# Altium integrated library Altera ACEX 1K.IntLib: 67 symbols (part 1 of 7)
Pins are listed as number, name and electrical type; pins without a type are passive.

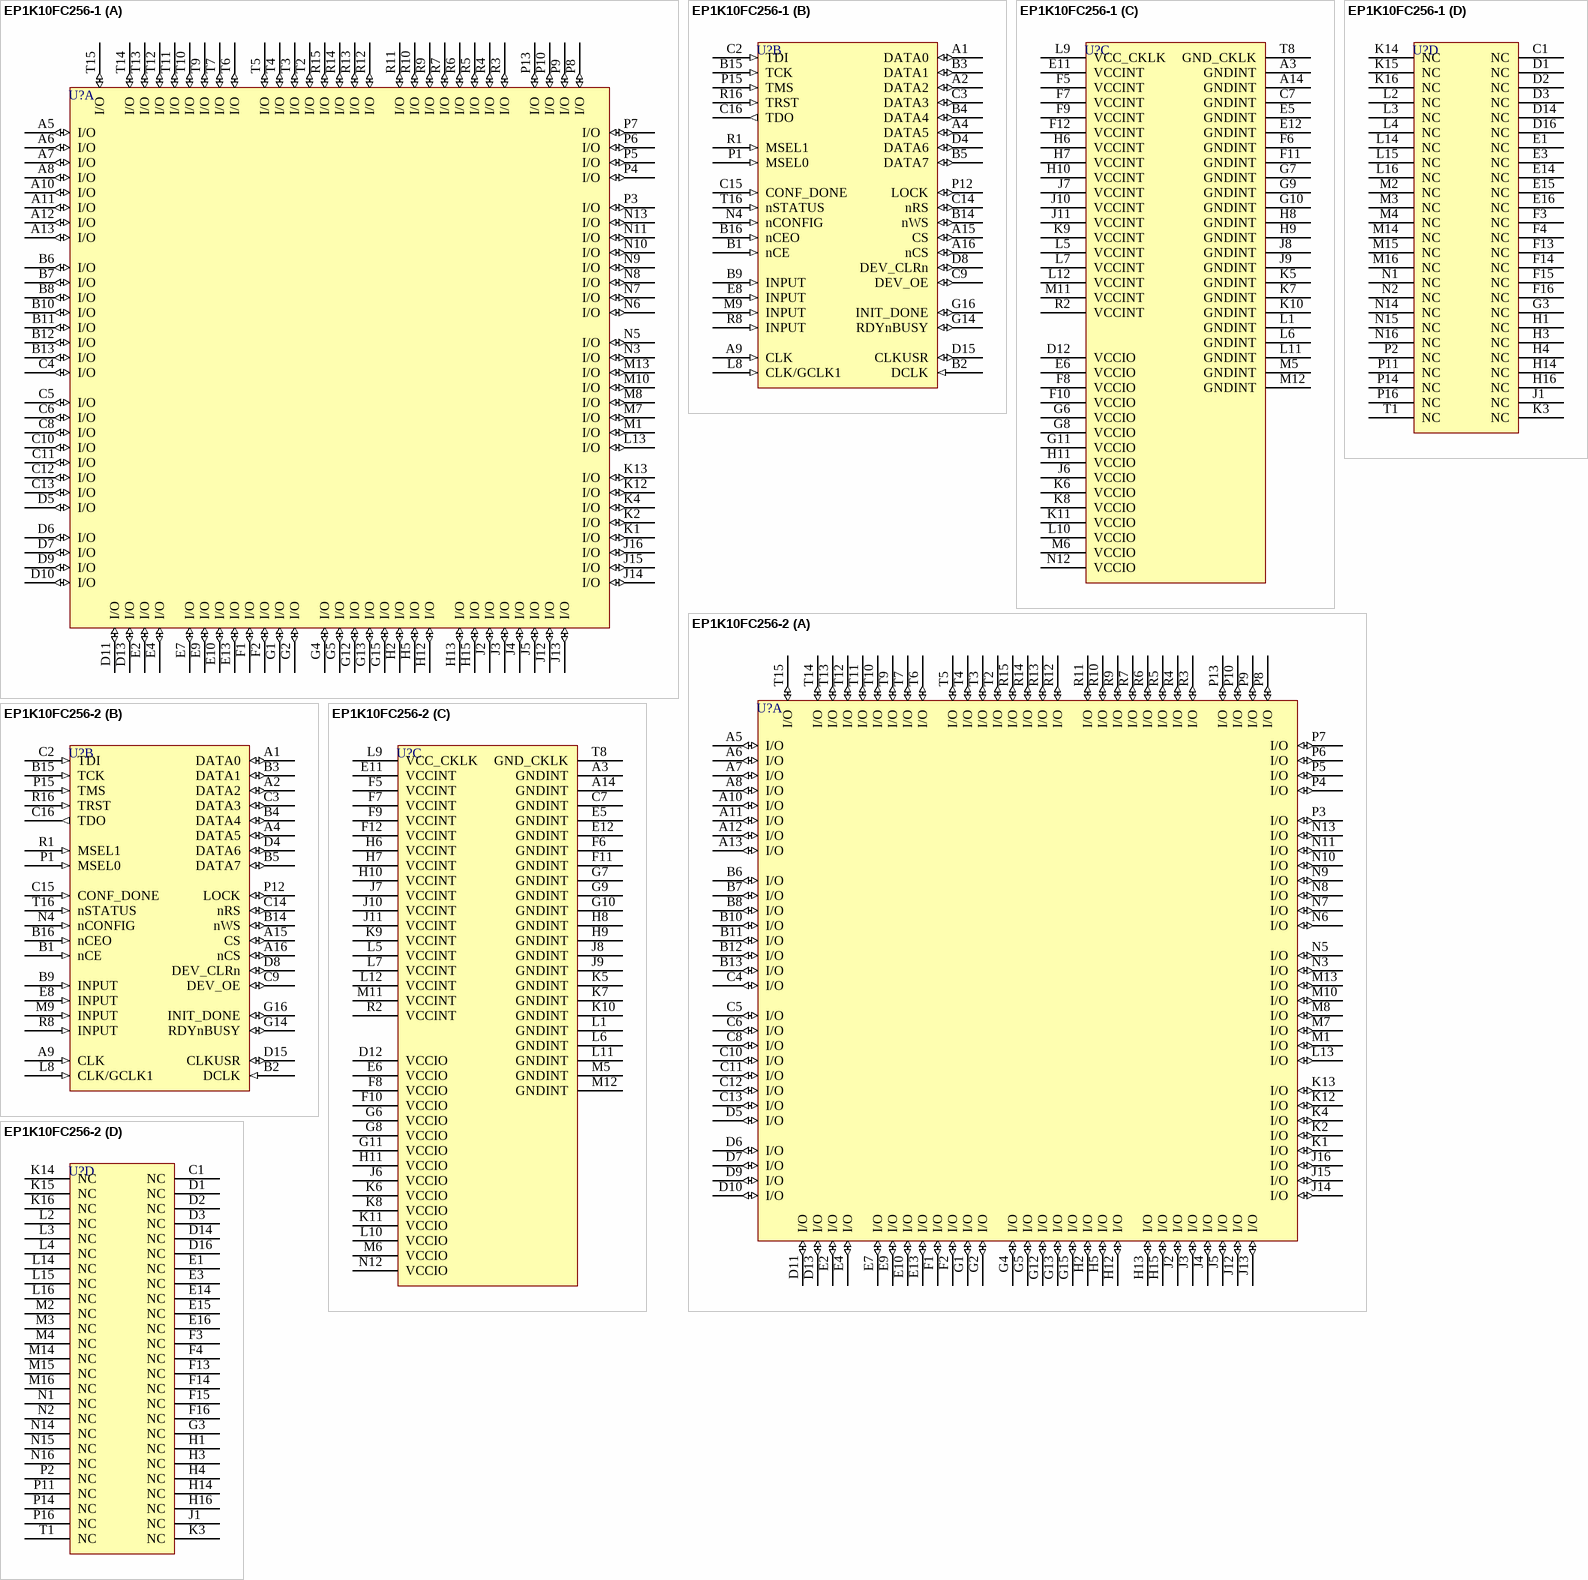
[diagram p0: symbols EP1K10FC256-1 to EP1K10FC256-2]

## EP1K10FC256-1
designator U?
ACEX 1K PLD with 136 I/O Pins, 256-pin FBGA, Commercial Grade, Speed Grade 1; Published: 17-Jul-2002; LatestRevisionDate: 13-Apr-2006; LatestRevisionNote: IPC-7351 Footprint Added.; DatasheetVersion: May-2003; PackageVersion: ver14.1, Oct-2005; PackageReference: FBGA256; Publisher: Altium Limited; PackageDescription: 256-Ball FineLine Ball Grid Array (FBGA256) - Option 1; Code_JEDEC: MS-034-AAF-1; Code_IPC: BGA100P16X16-256; ComponentLink1Description: Manufacturer Link; ComponentLink1URL: http://www.altera.com/products/devices/acex/acx-index.html; ComponentLink2Description: Datasheet; ComponentLink2URL: http://www.altera.com/literature/ds/acex.pdf
footprint FBGA256 (BGA, 256-Leads, Body 17x17mm, Pitch 1mm)
3D model EP1K10-FBGA256 (256-Ball FineLine Ball Grid Array (FBGA256) - Option 1)
part A pins: A5 I/O (io), A6 I/O (io), A7 I/O (io), A8 I/O (io), A10 I/O (io), A11 I/O (io), A12 I/O (io), A13 I/O (io), B6 I/O (io), B7 I/O (io), B8 I/O (io), B10 I/O (io), B11 I/O (io), B12 I/O (io), B13 I/O (io), C4 I/O (io), C5 I/O (io), C6 I/O (io), C8 I/O (io), C10 I/O (io), C11 I/O (io), C12 I/O (io), C13 I/O (io), D5 I/O (io), D6 I/O (io), D7 I/O (io), D9 I/O (io), D10 I/O (io), D11 I/O (io), D13 I/O (io), E2 I/O (io), E4 I/O (io), E7 I/O (io), E9 I/O (io), E10 I/O (io), E13 I/O (io), F1 I/O (io), F2 I/O (io), G1 I/O (io), G2 I/O (io), G4 I/O (io), G5 I/O (io), G12 I/O (io), G13 I/O (io), G15 I/O (io), H2 I/O (io), H5 I/O (io), H12 I/O (io), H13 I/O (io), H15 I/O (io), J2 I/O (io), J3 I/O (io), J4 I/O (io), J5 I/O (io), J12 I/O (io), J13 I/O (io), J14 I/O (io), J15 I/O (io), J16 I/O (io), K1 I/O (io), K2 I/O (io), K4 I/O (io), K12 I/O (io), K13 I/O (io), L13 I/O (io), M1 I/O (io), M7 I/O (io), M8 I/O (io), M10 I/O (io), M13 I/O (io), N3 I/O (io), N5 I/O (io), N6 I/O (io), N7 I/O (io), N8 I/O (io), N9 I/O (io), N10 I/O (io), N11 I/O (io), N13 I/O (io), P3 I/O (io), P4 I/O (io), P5 I/O (io), P6 I/O (io), P7 I/O (io), P8 I/O (io), P9 I/O (io), P10 I/O (io), P13 I/O (io), R3 I/O (io), R4 I/O (io), R5 I/O (io), R6 I/O (io), R7 I/O (io), R9 I/O (io), R10 I/O (io), R11 I/O (io), R12 I/O (io), R13 I/O (io), R14 I/O (io), R15 I/O (io), T2 I/O (io), T3 I/O (io), T4 I/O (io), T5 I/O (io), T6 I/O (io), T7 I/O (io), T9 I/O (io), T10 I/O (io), T11 I/O (io), T12 I/O (io), T13 I/O (io), T14 I/O (io), T15 I/O (io)
part B pins: A1 DATA0 (io), A2 DATA2 (io), A4 DATA5 (io), A9 CLK (in), A15 CS (io), A16 nCS (io), B1 nCE (in), B2 DCLK (in), B3 DATA1 (io), B4 DATA4 (io), B5 DATA7 (io), B9 INPUT (in), B14 nWS (io), B15 TCK (in), B16 nCEO (in), C2 TDI (in), C3 DATA3 (io), C9 DEV_OE (io), C14 nRS (io), C15 CONF_DONE (in), C16 TDO (out), D4 DATA6 (io), D8 DEV_CLRn (io), D15 CLKUSR (io), E8 INPUT (in), G14 RDYnBUSY (io), G16 INIT_DONE (io), L8 CLK/GCLK1 (in), M9 INPUT (in), N4 nCONFIG (in), P1 MSEL0 (in), P12 LOCK (io), P15 TMS (in), R1 MSEL1 (in), R8 INPUT (in), R16 TRST (in), T16 nSTATUS (in)
part C pins: A3 GNDINT (power), A14 GNDINT (power), C7 GNDINT (power), D12 VCCIO (power), E5 GNDINT (power), E6 VCCIO (power), E11 VCCINT (power), E12 GNDINT (power), F5 VCCINT (power), F6 GNDINT (power), F7 VCCINT (power), F8 VCCIO (power), F9 VCCINT (power), F10 VCCIO (power), F11 GNDINT (power), F12 VCCINT (power), G6 VCCIO (power), G7 GNDINT (power), G8 VCCIO (power), G9 GNDINT (power), G10 GNDINT (power), G11 VCCIO (power), H6 VCCINT (power), H7 VCCINT (power), H8 GNDINT (power), H9 GNDINT (power), H10 VCCINT (power), H11 VCCIO (power), J6 VCCIO (power), J7 VCCINT (power), J8 GNDINT (power), J9 GNDINT (power), J10 VCCINT (power), J11 VCCINT (power), K5 GNDINT (power), K6 VCCIO (power), K7 GNDINT (power), K8 VCCIO (power), K9 VCCINT (power), K10 GNDINT (power), K11 VCCIO (power), L1 GNDINT (power), L5 VCCINT (power), L6 GNDINT (power), L7 VCCINT (power), L9 VCC_CKLK (power), L10 VCCIO (power), L11 GNDINT (power), L12 VCCINT (power), M5 GNDINT (power), M6 VCCIO (power), M11 VCCINT (power), M12 GNDINT (power), N12 VCCIO (power), R2 VCCINT (power), T8 GND_CKLK (power)
part D pins: C1 NC, D1 NC, D2 NC, D3 NC, D14 NC, D16 NC, E1 NC, E3 NC, E14 NC, E15 NC, E16 NC, F3 NC, F4 NC, F13 NC, F14 NC, F15 NC, F16 NC, G3 NC, H1 NC, H3 NC, H4 NC, H14 NC, H16 NC, J1 NC, K3 NC, K14 NC, K15 NC, K16 NC, L2 NC, L3 NC, L4 NC, L14 NC, L15 NC, L16 NC, M2 NC, M3 NC, M4 NC, M14 NC, M15 NC, M16 NC, N1 NC, N2 NC, N14 NC, N15 NC, N16 NC, P2 NC, P11 NC, P14 NC, P16 NC, T1 NC

## EP1K10FC256-2
designator U?
ACEX 1K PLD with 136 I/O Pins, 256-pin FBGA, Commercial Grade, Speed Grade 2; Published: 17-Jul-2002; LatestRevisionDate: 13-Apr-2006; LatestRevisionNote: IPC-7351 Footprint Added.; DatasheetVersion: May-2003; PackageVersion: ver14.1, Oct-2005; PackageReference: FBGA256; Publisher: Altium Limited; PackageDescription: 256-Ball FineLine Ball Grid Array (FBGA256) - Option 1; Code_JEDEC: MS-034-AAF-1; Code_IPC: BGA100P16X16-256; ComponentLink1Description: Manufacturer Link; ComponentLink1URL: http://www.altera.com/products/devices/acex/acx-index.html; ComponentLink2Description: Datasheet; ComponentLink2URL: http://www.altera.com/literature/ds/acex.pdf
footprint FBGA256 (BGA, 256-Leads, Body 17x17mm, Pitch 1mm)
3D model EP1K10-FBGA256 (256-Ball FineLine Ball Grid Array (FBGA256) - Option 1)
part A pins: A5 I/O (io), A6 I/O (io), A7 I/O (io), A8 I/O (io), A10 I/O (io), A11 I/O (io), A12 I/O (io), A13 I/O (io), B6 I/O (io), B7 I/O (io), B8 I/O (io), B10 I/O (io), B11 I/O (io), B12 I/O (io), B13 I/O (io), C4 I/O (io), C5 I/O (io), C6 I/O (io), C8 I/O (io), C10 I/O (io), C11 I/O (io), C12 I/O (io), C13 I/O (io), D5 I/O (io), D6 I/O (io), D7 I/O (io), D9 I/O (io), D10 I/O (io), D11 I/O (io), D13 I/O (io), E2 I/O (io), E4 I/O (io), E7 I/O (io), E9 I/O (io), E10 I/O (io), E13 I/O (io), F1 I/O (io), F2 I/O (io), G1 I/O (io), G2 I/O (io), G4 I/O (io), G5 I/O (io), G12 I/O (io), G13 I/O (io), G15 I/O (io), H2 I/O (io), H5 I/O (io), H12 I/O (io), H13 I/O (io), H15 I/O (io), J2 I/O (io), J3 I/O (io), J4 I/O (io), J5 I/O (io), J12 I/O (io), J13 I/O (io), J14 I/O (io), J15 I/O (io), J16 I/O (io), K1 I/O (io), K2 I/O (io), K4 I/O (io), K12 I/O (io), K13 I/O (io), L13 I/O (io), M1 I/O (io), M7 I/O (io), M8 I/O (io), M10 I/O (io), M13 I/O (io), N3 I/O (io), N5 I/O (io), N6 I/O (io), N7 I/O (io), N8 I/O (io), N9 I/O (io), N10 I/O (io), N11 I/O (io), N13 I/O (io), P3 I/O (io), P4 I/O (io), P5 I/O (io), P6 I/O (io), P7 I/O (io), P8 I/O (io), P9 I/O (io), P10 I/O (io), P13 I/O (io), R3 I/O (io), R4 I/O (io), R5 I/O (io), R6 I/O (io), R7 I/O (io), R9 I/O (io), R10 I/O (io), R11 I/O (io), R12 I/O (io), R13 I/O (io), R14 I/O (io), R15 I/O (io), T2 I/O (io), T3 I/O (io), T4 I/O (io), T5 I/O (io), T6 I/O (io), T7 I/O (io), T9 I/O (io), T10 I/O (io), T11 I/O (io), T12 I/O (io), T13 I/O (io), T14 I/O (io), T15 I/O (io)
part B pins: A1 DATA0 (io), A2 DATA2 (io), A4 DATA5 (io), A9 CLK (in), A15 CS (io), A16 nCS (io), B1 nCE (in), B2 DCLK (in), B3 DATA1 (io), B4 DATA4 (io), B5 DATA7 (io), B9 INPUT (in), B14 nWS (io), B15 TCK (in), B16 nCEO (in), C2 TDI (in), C3 DATA3 (io), C9 DEV_OE (io), C14 nRS (io), C15 CONF_DONE (in), C16 TDO (out), D4 DATA6 (io), D8 DEV_CLRn (io), D15 CLKUSR (io), E8 INPUT (in), G14 RDYnBUSY (io), G16 INIT_DONE (io), L8 CLK/GCLK1 (in), M9 INPUT (in), N4 nCONFIG (in), P1 MSEL0 (in), P12 LOCK (io), P15 TMS (in), R1 MSEL1 (in), R8 INPUT (in), R16 TRST (in), T16 nSTATUS (in)
part C pins: A3 GNDINT (power), A14 GNDINT (power), C7 GNDINT (power), D12 VCCIO (power), E5 GNDINT (power), E6 VCCIO (power), E11 VCCINT (power), E12 GNDINT (power), F5 VCCINT (power), F6 GNDINT (power), F7 VCCINT (power), F8 VCCIO (power), F9 VCCINT (power), F10 VCCIO (power), F11 GNDINT (power), F12 VCCINT (power), G6 VCCIO (power), G7 GNDINT (power), G8 VCCIO (power), G9 GNDINT (power), G10 GNDINT (power), G11 VCCIO (power), H6 VCCINT (power), H7 VCCINT (power), H8 GNDINT (power), H9 GNDINT (power), H10 VCCINT (power), H11 VCCIO (power), J6 VCCIO (power), J7 VCCINT (power), J8 GNDINT (power), J9 GNDINT (power), J10 VCCINT (power), J11 VCCINT (power), K5 GNDINT (power), K6 VCCIO (power), K7 GNDINT (power), K8 VCCIO (power), K9 VCCINT (power), K10 GNDINT (power), K11 VCCIO (power), L1 GNDINT (power), L5 VCCINT (power), L6 GNDINT (power), L7 VCCINT (power), L9 VCC_CKLK (power), L10 VCCIO (power), L11 GNDINT (power), L12 VCCINT (power), M5 GNDINT (power), M6 VCCIO (power), M11 VCCINT (power), M12 GNDINT (power), N12 VCCIO (power), R2 VCCINT (power), T8 GND_CKLK (power)
part D pins: C1 NC, D1 NC, D2 NC, D3 NC, D14 NC, D16 NC, E1 NC, E3 NC, E14 NC, E15 NC, E16 NC, F3 NC, F4 NC, F13 NC, F14 NC, F15 NC, F16 NC, G3 NC, H1 NC, H3 NC, H4 NC, H14 NC, H16 NC, J1 NC, K3 NC, K14 NC, K15 NC, K16 NC, L2 NC, L3 NC, L4 NC, L14 NC, L15 NC, L16 NC, M2 NC, M3 NC, M4 NC, M14 NC, M15 NC, M16 NC, N1 NC, N2 NC, N14 NC, N15 NC, N16 NC, P2 NC, P11 NC, P14 NC, P16 NC, T1 NC

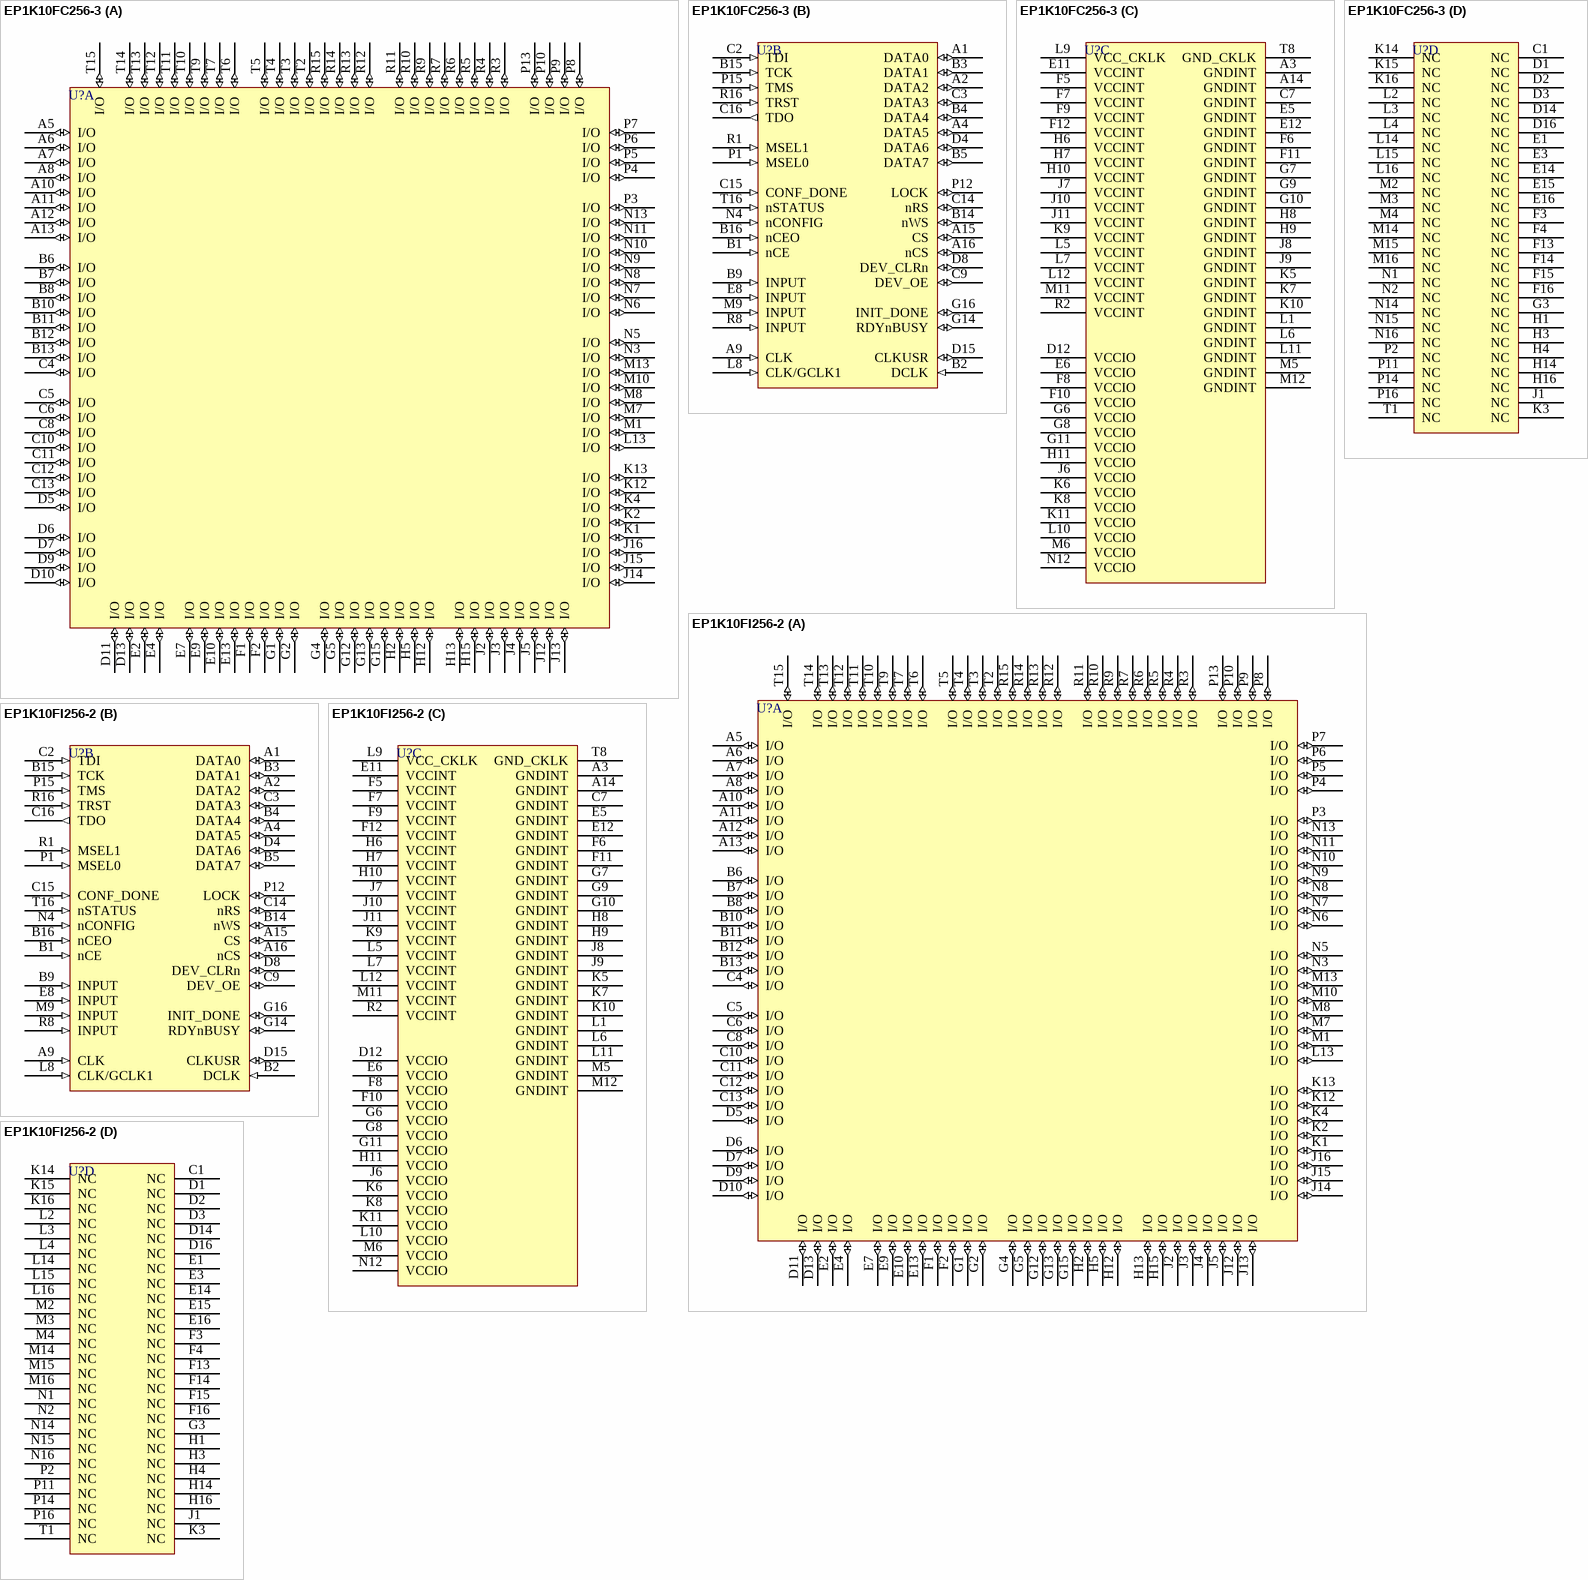
[diagram p1: symbols EP1K10FC256-3 to EP1K10FI256-2]

## EP1K10FC256-3
designator U?
ACEX 1K PLD with 136 I/O Pins, 256-pin FBGA, Commercial Grade, Speed Grade 3; Published: 17-Jul-2002; LatestRevisionDate: 13-Apr-2006; LatestRevisionNote: IPC-7351 Footprint Added.; DatasheetVersion: May-2003; PackageVersion: ver14.1, Oct-2005; PackageReference: FBGA256; Publisher: Altium Limited; PackageDescription: 256-Ball FineLine Ball Grid Array (FBGA256) - Option 1; Code_JEDEC: MS-034-AAF-1; Code_IPC: BGA100P16X16-256; ComponentLink1Description: Manufacturer Link; ComponentLink1URL: http://www.altera.com/products/devices/acex/acx-index.html; ComponentLink2Description: Datasheet; ComponentLink2URL: http://www.altera.com/literature/ds/acex.pdf
footprint FBGA256 (BGA, 256-Leads, Body 17x17mm, Pitch 1mm)
3D model EP1K10-FBGA256 (256-Ball FineLine Ball Grid Array (FBGA256) - Option 1)
part A pins: A5 I/O (io), A6 I/O (io), A7 I/O (io), A8 I/O (io), A10 I/O (io), A11 I/O (io), A12 I/O (io), A13 I/O (io), B6 I/O (io), B7 I/O (io), B8 I/O (io), B10 I/O (io), B11 I/O (io), B12 I/O (io), B13 I/O (io), C4 I/O (io), C5 I/O (io), C6 I/O (io), C8 I/O (io), C10 I/O (io), C11 I/O (io), C12 I/O (io), C13 I/O (io), D5 I/O (io), D6 I/O (io), D7 I/O (io), D9 I/O (io), D10 I/O (io), D11 I/O (io), D13 I/O (io), E2 I/O (io), E4 I/O (io), E7 I/O (io), E9 I/O (io), E10 I/O (io), E13 I/O (io), F1 I/O (io), F2 I/O (io), G1 I/O (io), G2 I/O (io), G4 I/O (io), G5 I/O (io), G12 I/O (io), G13 I/O (io), G15 I/O (io), H2 I/O (io), H5 I/O (io), H12 I/O (io), H13 I/O (io), H15 I/O (io), J2 I/O (io), J3 I/O (io), J4 I/O (io), J5 I/O (io), J12 I/O (io), J13 I/O (io), J14 I/O (io), J15 I/O (io), J16 I/O (io), K1 I/O (io), K2 I/O (io), K4 I/O (io), K12 I/O (io), K13 I/O (io), L13 I/O (io), M1 I/O (io), M7 I/O (io), M8 I/O (io), M10 I/O (io), M13 I/O (io), N3 I/O (io), N5 I/O (io), N6 I/O (io), N7 I/O (io), N8 I/O (io), N9 I/O (io), N10 I/O (io), N11 I/O (io), N13 I/O (io), P3 I/O (io), P4 I/O (io), P5 I/O (io), P6 I/O (io), P7 I/O (io), P8 I/O (io), P9 I/O (io), P10 I/O (io), P13 I/O (io), R3 I/O (io), R4 I/O (io), R5 I/O (io), R6 I/O (io), R7 I/O (io), R9 I/O (io), R10 I/O (io), R11 I/O (io), R12 I/O (io), R13 I/O (io), R14 I/O (io), R15 I/O (io), T2 I/O (io), T3 I/O (io), T4 I/O (io), T5 I/O (io), T6 I/O (io), T7 I/O (io), T9 I/O (io), T10 I/O (io), T11 I/O (io), T12 I/O (io), T13 I/O (io), T14 I/O (io), T15 I/O (io)
part B pins: A1 DATA0 (io), A2 DATA2 (io), A4 DATA5 (io), A9 CLK (in), A15 CS (io), A16 nCS (io), B1 nCE (in), B2 DCLK (in), B3 DATA1 (io), B4 DATA4 (io), B5 DATA7 (io), B9 INPUT (in), B14 nWS (io), B15 TCK (in), B16 nCEO (in), C2 TDI (in), C3 DATA3 (io), C9 DEV_OE (io), C14 nRS (io), C15 CONF_DONE (in), C16 TDO (out), D4 DATA6 (io), D8 DEV_CLRn (io), D15 CLKUSR (io), E8 INPUT (in), G14 RDYnBUSY (io), G16 INIT_DONE (io), L8 CLK/GCLK1 (in), M9 INPUT (in), N4 nCONFIG (in), P1 MSEL0 (in), P12 LOCK (io), P15 TMS (in), R1 MSEL1 (in), R8 INPUT (in), R16 TRST (in), T16 nSTATUS (in)
part C pins: A3 GNDINT (power), A14 GNDINT (power), C7 GNDINT (power), D12 VCCIO (power), E5 GNDINT (power), E6 VCCIO (power), E11 VCCINT (power), E12 GNDINT (power), F5 VCCINT (power), F6 GNDINT (power), F7 VCCINT (power), F8 VCCIO (power), F9 VCCINT (power), F10 VCCIO (power), F11 GNDINT (power), F12 VCCINT (power), G6 VCCIO (power), G7 GNDINT (power), G8 VCCIO (power), G9 GNDINT (power), G10 GNDINT (power), G11 VCCIO (power), H6 VCCINT (power), H7 VCCINT (power), H8 GNDINT (power), H9 GNDINT (power), H10 VCCINT (power), H11 VCCIO (power), J6 VCCIO (power), J7 VCCINT (power), J8 GNDINT (power), J9 GNDINT (power), J10 VCCINT (power), J11 VCCINT (power), K5 GNDINT (power), K6 VCCIO (power), K7 GNDINT (power), K8 VCCIO (power), K9 VCCINT (power), K10 GNDINT (power), K11 VCCIO (power), L1 GNDINT (power), L5 VCCINT (power), L6 GNDINT (power), L7 VCCINT (power), L9 VCC_CKLK (power), L10 VCCIO (power), L11 GNDINT (power), L12 VCCINT (power), M5 GNDINT (power), M6 VCCIO (power), M11 VCCINT (power), M12 GNDINT (power), N12 VCCIO (power), R2 VCCINT (power), T8 GND_CKLK (power)
part D pins: C1 NC, D1 NC, D2 NC, D3 NC, D14 NC, D16 NC, E1 NC, E3 NC, E14 NC, E15 NC, E16 NC, F3 NC, F4 NC, F13 NC, F14 NC, F15 NC, F16 NC, G3 NC, H1 NC, H3 NC, H4 NC, H14 NC, H16 NC, J1 NC, K3 NC, K14 NC, K15 NC, K16 NC, L2 NC, L3 NC, L4 NC, L14 NC, L15 NC, L16 NC, M2 NC, M3 NC, M4 NC, M14 NC, M15 NC, M16 NC, N1 NC, N2 NC, N14 NC, N15 NC, N16 NC, P2 NC, P11 NC, P14 NC, P16 NC, T1 NC

## EP1K10FI256-2
designator U?
ACEX 1K PLD with 136 I/O Pins, 256-pin FBGA, Industrial Grade, Speed Grade 2; Published: 17-Jul-2002; LatestRevisionDate: 13-Apr-2006; LatestRevisionNote: IPC-7351 Footprint Added.; DatasheetVersion: May-2003; PackageVersion: ver14.1, Oct-2005; PackageReference: FBGA256; Publisher: Altium Limited; PackageDescription: 256-Ball FineLine Ball Grid Array (FBGA256) - Option 1; Code_JEDEC: MS-034-AAF-1; Code_IPC: BGA100P16X16-256; ComponentLink1Description: Manufacturer Link; ComponentLink1URL: http://www.altera.com/products/devices/acex/acx-index.html; ComponentLink2Description: Datasheet; ComponentLink2URL: http://www.altera.com/literature/ds/acex.pdf
footprint FBGA256 (BGA, 256-Leads, Body 17x17mm, Pitch 1mm)
3D model EP1K10-FBGA256 (256-Ball FineLine Ball Grid Array (FBGA256) - Option 1)
part A pins: A5 I/O (io), A6 I/O (io), A7 I/O (io), A8 I/O (io), A10 I/O (io), A11 I/O (io), A12 I/O (io), A13 I/O (io), B6 I/O (io), B7 I/O (io), B8 I/O (io), B10 I/O (io), B11 I/O (io), B12 I/O (io), B13 I/O (io), C4 I/O (io), C5 I/O (io), C6 I/O (io), C8 I/O (io), C10 I/O (io), C11 I/O (io), C12 I/O (io), C13 I/O (io), D5 I/O (io), D6 I/O (io), D7 I/O (io), D9 I/O (io), D10 I/O (io), D11 I/O (io), D13 I/O (io), E2 I/O (io), E4 I/O (io), E7 I/O (io), E9 I/O (io), E10 I/O (io), E13 I/O (io), F1 I/O (io), F2 I/O (io), G1 I/O (io), G2 I/O (io), G4 I/O (io), G5 I/O (io), G12 I/O (io), G13 I/O (io), G15 I/O (io), H2 I/O (io), H5 I/O (io), H12 I/O (io), H13 I/O (io), H15 I/O (io), J2 I/O (io), J3 I/O (io), J4 I/O (io), J5 I/O (io), J12 I/O (io), J13 I/O (io), J14 I/O (io), J15 I/O (io), J16 I/O (io), K1 I/O (io), K2 I/O (io), K4 I/O (io), K12 I/O (io), K13 I/O (io), L13 I/O (io), M1 I/O (io), M7 I/O (io), M8 I/O (io), M10 I/O (io), M13 I/O (io), N3 I/O (io), N5 I/O (io), N6 I/O (io), N7 I/O (io), N8 I/O (io), N9 I/O (io), N10 I/O (io), N11 I/O (io), N13 I/O (io), P3 I/O (io), P4 I/O (io), P5 I/O (io), P6 I/O (io), P7 I/O (io), P8 I/O (io), P9 I/O (io), P10 I/O (io), P13 I/O (io), R3 I/O (io), R4 I/O (io), R5 I/O (io), R6 I/O (io), R7 I/O (io), R9 I/O (io), R10 I/O (io), R11 I/O (io), R12 I/O (io), R13 I/O (io), R14 I/O (io), R15 I/O (io), T2 I/O (io), T3 I/O (io), T4 I/O (io), T5 I/O (io), T6 I/O (io), T7 I/O (io), T9 I/O (io), T10 I/O (io), T11 I/O (io), T12 I/O (io), T13 I/O (io), T14 I/O (io), T15 I/O (io)
part B pins: A1 DATA0 (io), A2 DATA2 (io), A4 DATA5 (io), A9 CLK (in), A15 CS (io), A16 nCS (io), B1 nCE (in), B2 DCLK (in), B3 DATA1 (io), B4 DATA4 (io), B5 DATA7 (io), B9 INPUT (in), B14 nWS (io), B15 TCK (in), B16 nCEO (in), C2 TDI (in), C3 DATA3 (io), C9 DEV_OE (io), C14 nRS (io), C15 CONF_DONE (in), C16 TDO (out), D4 DATA6 (io), D8 DEV_CLRn (io), D15 CLKUSR (io), E8 INPUT (in), G14 RDYnBUSY (io), G16 INIT_DONE (io), L8 CLK/GCLK1 (in), M9 INPUT (in), N4 nCONFIG (in), P1 MSEL0 (in), P12 LOCK (io), P15 TMS (in), R1 MSEL1 (in), R8 INPUT (in), R16 TRST (in), T16 nSTATUS (in)
part C pins: A3 GNDINT (power), A14 GNDINT (power), C7 GNDINT (power), D12 VCCIO (power), E5 GNDINT (power), E6 VCCIO (power), E11 VCCINT (power), E12 GNDINT (power), F5 VCCINT (power), F6 GNDINT (power), F7 VCCINT (power), F8 VCCIO (power), F9 VCCINT (power), F10 VCCIO (power), F11 GNDINT (power), F12 VCCINT (power), G6 VCCIO (power), G7 GNDINT (power), G8 VCCIO (power), G9 GNDINT (power), G10 GNDINT (power), G11 VCCIO (power), H6 VCCINT (power), H7 VCCINT (power), H8 GNDINT (power), H9 GNDINT (power), H10 VCCINT (power), H11 VCCIO (power), J6 VCCIO (power), J7 VCCINT (power), J8 GNDINT (power), J9 GNDINT (power), J10 VCCINT (power), J11 VCCINT (power), K5 GNDINT (power), K6 VCCIO (power), K7 GNDINT (power), K8 VCCIO (power), K9 VCCINT (power), K10 GNDINT (power), K11 VCCIO (power), L1 GNDINT (power), L5 VCCINT (power), L6 GNDINT (power), L7 VCCINT (power), L9 VCC_CKLK (power), L10 VCCIO (power), L11 GNDINT (power), L12 VCCINT (power), M5 GNDINT (power), M6 VCCIO (power), M11 VCCINT (power), M12 GNDINT (power), N12 VCCIO (power), R2 VCCINT (power), T8 GND_CKLK (power)
part D pins: C1 NC, D1 NC, D2 NC, D3 NC, D14 NC, D16 NC, E1 NC, E3 NC, E14 NC, E15 NC, E16 NC, F3 NC, F4 NC, F13 NC, F14 NC, F15 NC, F16 NC, G3 NC, H1 NC, H3 NC, H4 NC, H14 NC, H16 NC, J1 NC, K3 NC, K14 NC, K15 NC, K16 NC, L2 NC, L3 NC, L4 NC, L14 NC, L15 NC, L16 NC, M2 NC, M3 NC, M4 NC, M14 NC, M15 NC, M16 NC, N1 NC, N2 NC, N14 NC, N15 NC, N16 NC, P2 NC, P11 NC, P14 NC, P16 NC, T1 NC

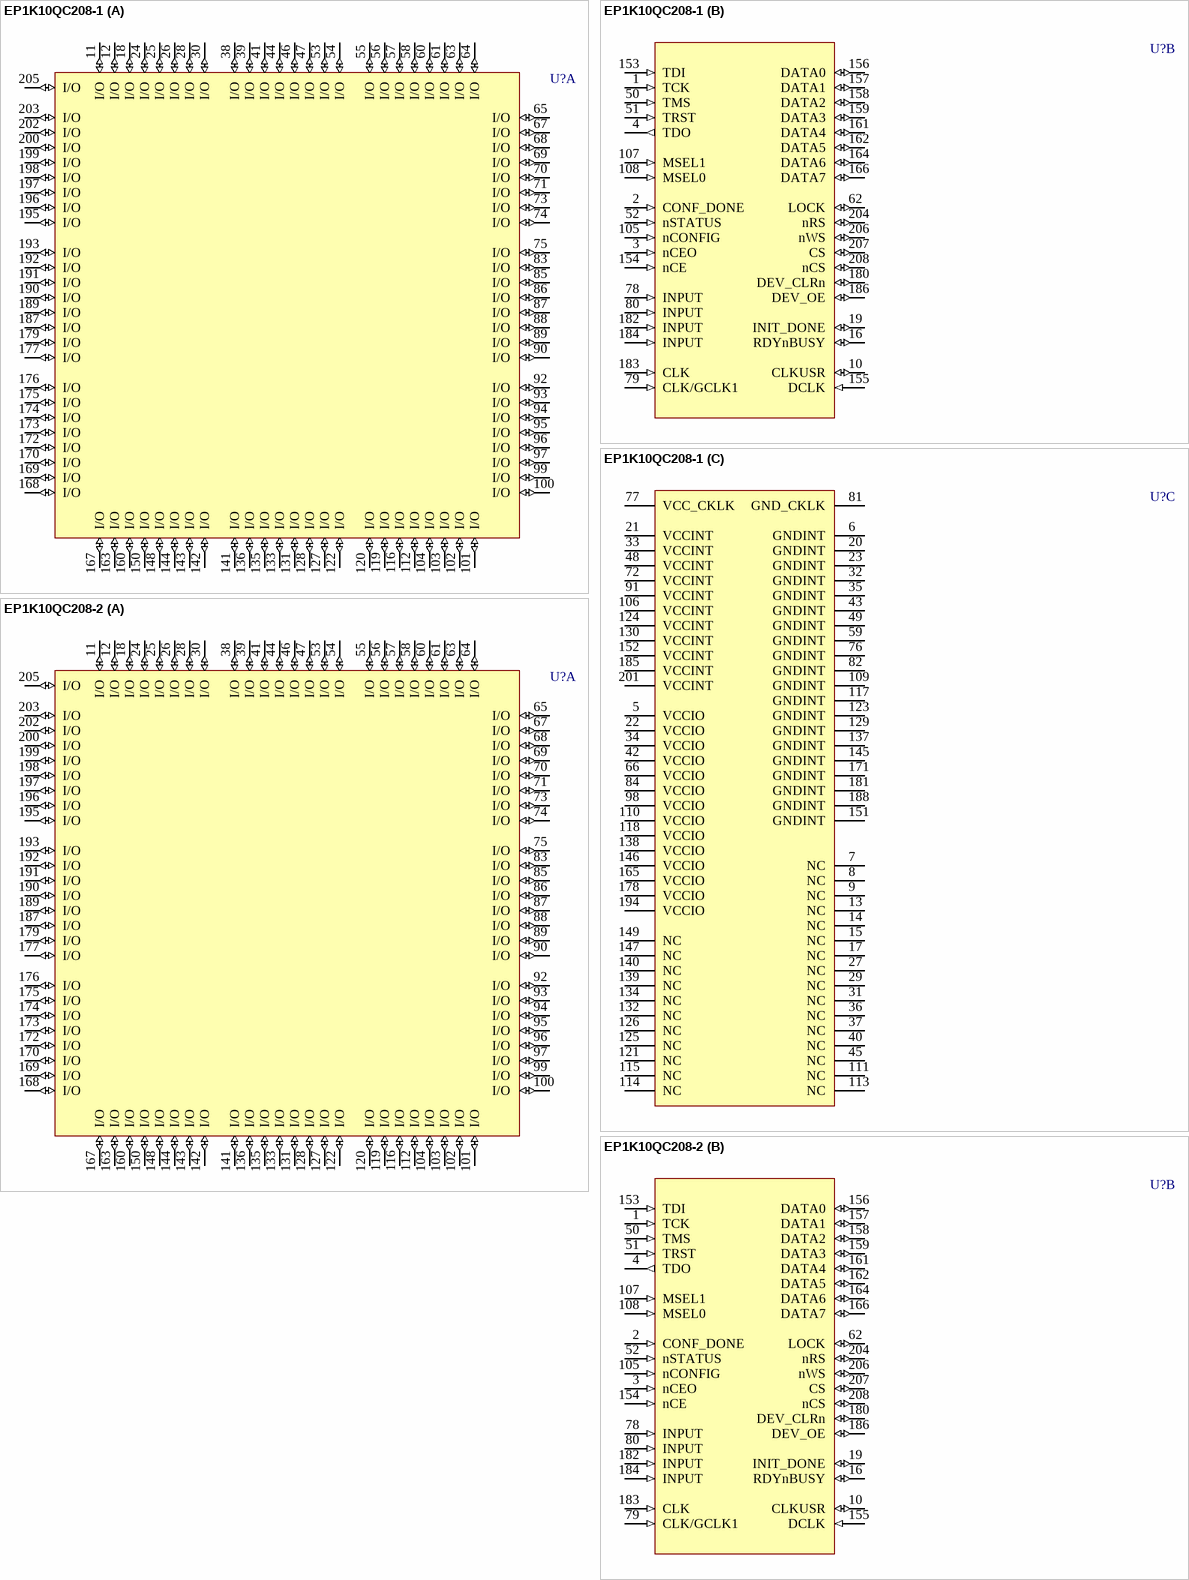
[diagram p2: symbols EP1K10QC208-1 to EP1K10QC208-2]

## EP1K10QC208-1
designator U?
ACEX 1K PLD with 120 I/O Pins, 208-pin PQFP, Commercial Grade, Speed Grade 1; Published: 17-Jul-2002; LatestRevisionDate: 13-Apr-2006; LatestRevisionNote: IPC-7351 Footprint Added.; DatasheetVersion: May-2003; PackageVersion: ver14.1, Oct-2005; PackageReference: PQFP208; Publisher: Altium Limited; PackageDescription: 208-Pin Plastic Quad Flat Pack (PQFP208); Code_JEDEC: MS-029-FA-1; ComponentLink1Description: Manufacturer Link; ComponentLink1URL: http://www.altera.com/products/devices/acex/acx-index.html; ComponentLink2Description: Datasheet; ComponentLink2URL: http://www.altera.com/literature/ds/acex.pdf
footprint PQFP208_N (Shrink QFP, 208-Leads, Body 28x28mm, Pitch 0.5mm, IPC Medium Density)
footprint PQFP208_L (Shrink QFP, 208-Leads, Body 28x28mm, Pitch 0.5mm, IPC High Density)
footprint PQFP208_M (Shrink QFP, 208-Leads, Body 28x28mm, Pitch 0.5mm, IPC Low Density)
3D model EP1K10-PQFP208 (208-Pin Plastic Quad Flat Pack (PQFP208))
part A pins: 11 I/O (io), 12 I/O (io), 18 I/O (io), 24 I/O (io), 25 I/O (io), 26 I/O (io), 28 I/O (io), 30 I/O (io), 38 I/O (io), 39 I/O (io), 41 I/O (io), 44 I/O (io), 46 I/O (io), 47 I/O (io), 53 I/O (io), 54 I/O (io), 55 I/O (io), 56 I/O (io), 57 I/O (io), 58 I/O (io), 60 I/O (io), 61 I/O (io), 63 I/O (io), 64 I/O (io), 65 I/O (io), 67 I/O (io), 68 I/O (io), 69 I/O (io), 70 I/O (io), 71 I/O (io), 73 I/O (io), 74 I/O (io), 75 I/O (io), 83 I/O (io), 85 I/O (io), 86 I/O (io), 87 I/O (io), 88 I/O (io), 89 I/O (io), 90 I/O (io), 92 I/O (io), 93 I/O (io), 94 I/O (io), 95 I/O (io), 96 I/O (io), 97 I/O (io), 99 I/O (io), 100 I/O (io), 101 I/O (io), 102 I/O (io), 103 I/O (io), 104 I/O (io), 112 I/O (io), 116 I/O (io), 119 I/O (io), 120 I/O (io), 122 I/O (io), 127 I/O (io), 128 I/O (io), 131 I/O (io), 133 I/O (io), 135 I/O (io), 136 I/O (io), 141 I/O (io), 142 I/O (io), 143 I/O (io), 144 I/O (io), 148 I/O (io), 150 I/O (io), 160 I/O (io), 163 I/O (io), 167 I/O (io), 168 I/O (io), 169 I/O (io), 170 I/O (io), 172 I/O (io), 173 I/O (io), 174 I/O (io), 175 I/O (io), 176 I/O (io), 177 I/O (io), 179 I/O (io), 187 I/O (io), 189 I/O (io), 190 I/O (io), 191 I/O (io), 192 I/O (io), 193 I/O (io), 195 I/O (io), 196 I/O (io), 197 I/O (io), 198 I/O (io), 199 I/O (io), 200 I/O (io), 202 I/O (io), 203 I/O (io), 205 I/O (io)
part B pins: 1 TCK (in), 2 CONF_DONE (in), 3 nCEO (in), 4 TDO (out), 10 CLKUSR (io), 16 RDYnBUSY (io), 19 INIT_DONE (io), 50 TMS (in), 51 TRST (in), 52 nSTATUS (in), 62 LOCK (io), 78 INPUT (in), 79 CLK/GCLK1 (in), 80 INPUT (in), 105 nCONFIG (in), 107 MSEL1 (in), 108 MSEL0 (in), 153 TDI (in), 154 nCE (in), 155 DCLK (in), 156 DATA0 (io), 157 DATA1 (io), 158 DATA2 (io), 159 DATA3 (io), 161 DATA4 (io), 162 DATA5 (io), 164 DATA6 (io), 166 DATA7 (io), 180 DEV_CLRn (io), 182 INPUT (in), 183 CLK (in), 184 INPUT (in), 186 DEV_OE (io), 204 nRS (io), 206 nWS (io), 207 CS (io), 208 nCS (io)
part C pins: 5 VCCIO (power), 6 GNDINT (power), 7 NC, 8 NC, 9 NC, 13 NC, 14 NC, 15 NC, 17 NC, 20 GNDINT (power), 21 VCCINT (power), 22 VCCIO (power), 23 GNDINT (power), 27 NC, 29 NC, 31 NC, 32 GNDINT (power), 33 VCCINT (power), 34 VCCIO (power), 35 GNDINT (power), 36 NC, 37 NC, 40 NC, 42 VCCIO (power), 43 GNDINT (power), 45 NC, 48 VCCINT (power), 49 GNDINT (power), 59 GNDINT (power), 66 VCCIO (power), 72 VCCINT (power), 76 GNDINT (power), 77 VCC_CKLK (power), 81 GND_CKLK (power), 82 GNDINT (power), 84 VCCIO (power), 91 VCCINT (power), 98 VCCIO (power), 106 VCCINT (power), 109 GNDINT (power), 110 VCCIO (power), 111 NC, 113 NC, 114 NC, 115 NC, 117 GNDINT (power), 118 VCCIO (power), 121 NC, 123 GNDINT (power), 124 VCCINT (power), 125 NC, 126 NC, 129 GNDINT (power), 130 VCCINT (power), 132 NC, 134 NC, 137 GNDINT (power), 138 VCCIO (power), 139 NC, 140 NC, 145 GNDINT (power), 146 VCCIO (power), 147 NC, 149 NC, 151 GNDINT (power), 152 VCCINT (power), 165 VCCIO (power), 171 GNDINT (power), 178 VCCIO (power), 181 GNDINT (power), 185 VCCINT (power), 188 GNDINT (power), 194 VCCIO (power), 201 VCCINT (power)

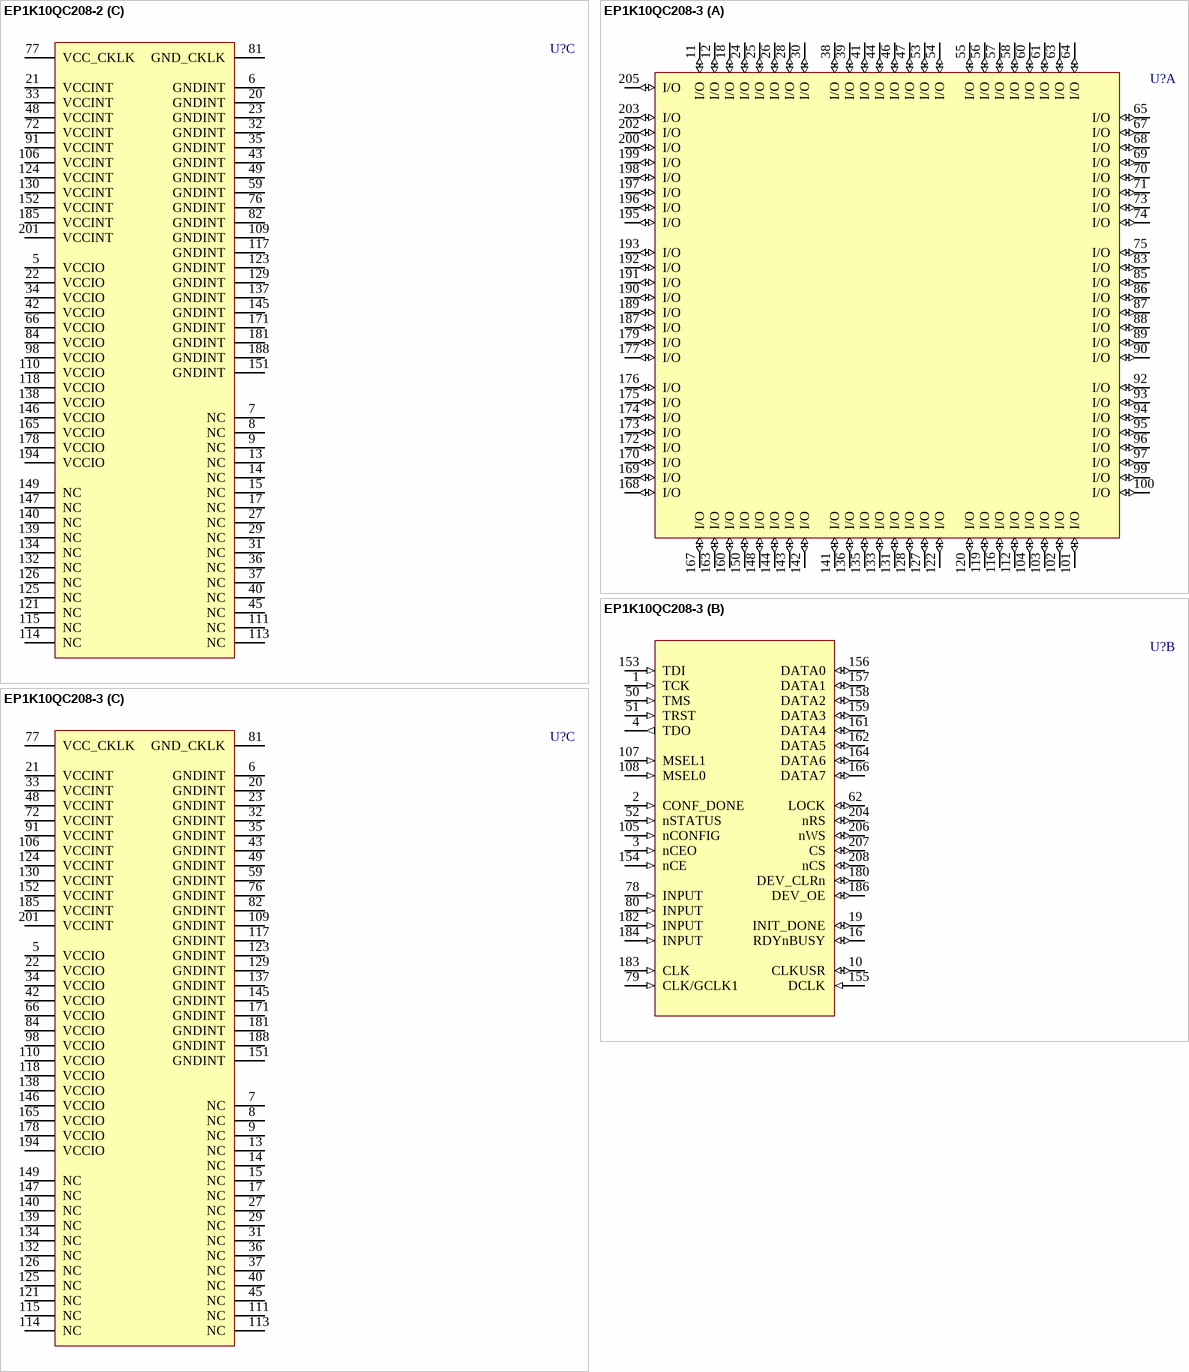
[diagram p3: symbols EP1K10QC208-2 to EP1K10QC208-3]

## EP1K10QC208-2
designator U?
ACEX 1K PLD with 120 I/O Pins, 208-pin PQFP, Commercial Grade, Speed Grade 2; Published: 17-Jul-2002; LatestRevisionDate: 13-Apr-2006; LatestRevisionNote: IPC-7351 Footprint Added.; DatasheetVersion: May-2003; PackageVersion: ver14.1, Oct-2005; PackageReference: PQFP208; Publisher: Altium Limited; PackageDescription: 208-Pin Plastic Quad Flat Pack (PQFP208); Code_JEDEC: MS-029-FA-1; ComponentLink1Description: Manufacturer Link; ComponentLink1URL: http://www.altera.com/products/devices/acex/acx-index.html; ComponentLink2Description: Datasheet; ComponentLink2URL: http://www.altera.com/literature/ds/acex.pdf
footprint PQFP208_N (Shrink QFP, 208-Leads, Body 28x28mm, Pitch 0.5mm, IPC Medium Density)
footprint PQFP208_L (Shrink QFP, 208-Leads, Body 28x28mm, Pitch 0.5mm, IPC High Density)
footprint PQFP208_M (Shrink QFP, 208-Leads, Body 28x28mm, Pitch 0.5mm, IPC Low Density)
3D model EP1K10-PQFP208 (208-Pin Plastic Quad Flat Pack (PQFP208))
part A pins: 11 I/O (io), 12 I/O (io), 18 I/O (io), 24 I/O (io), 25 I/O (io), 26 I/O (io), 28 I/O (io), 30 I/O (io), 38 I/O (io), 39 I/O (io), 41 I/O (io), 44 I/O (io), 46 I/O (io), 47 I/O (io), 53 I/O (io), 54 I/O (io), 55 I/O (io), 56 I/O (io), 57 I/O (io), 58 I/O (io), 60 I/O (io), 61 I/O (io), 63 I/O (io), 64 I/O (io), 65 I/O (io), 67 I/O (io), 68 I/O (io), 69 I/O (io), 70 I/O (io), 71 I/O (io), 73 I/O (io), 74 I/O (io), 75 I/O (io), 83 I/O (io), 85 I/O (io), 86 I/O (io), 87 I/O (io), 88 I/O (io), 89 I/O (io), 90 I/O (io), 92 I/O (io), 93 I/O (io), 94 I/O (io), 95 I/O (io), 96 I/O (io), 97 I/O (io), 99 I/O (io), 100 I/O (io), 101 I/O (io), 102 I/O (io), 103 I/O (io), 104 I/O (io), 112 I/O (io), 116 I/O (io), 119 I/O (io), 120 I/O (io), 122 I/O (io), 127 I/O (io), 128 I/O (io), 131 I/O (io), 133 I/O (io), 135 I/O (io), 136 I/O (io), 141 I/O (io), 142 I/O (io), 143 I/O (io), 144 I/O (io), 148 I/O (io), 150 I/O (io), 160 I/O (io), 163 I/O (io), 167 I/O (io), 168 I/O (io), 169 I/O (io), 170 I/O (io), 172 I/O (io), 173 I/O (io), 174 I/O (io), 175 I/O (io), 176 I/O (io), 177 I/O (io), 179 I/O (io), 187 I/O (io), 189 I/O (io), 190 I/O (io), 191 I/O (io), 192 I/O (io), 193 I/O (io), 195 I/O (io), 196 I/O (io), 197 I/O (io), 198 I/O (io), 199 I/O (io), 200 I/O (io), 202 I/O (io), 203 I/O (io), 205 I/O (io)
part B pins: 1 TCK (in), 2 CONF_DONE (in), 3 nCEO (in), 4 TDO (out), 10 CLKUSR (io), 16 RDYnBUSY (io), 19 INIT_DONE (io), 50 TMS (in), 51 TRST (in), 52 nSTATUS (in), 62 LOCK (io), 78 INPUT (in), 79 CLK/GCLK1 (in), 80 INPUT (in), 105 nCONFIG (in), 107 MSEL1 (in), 108 MSEL0 (in), 153 TDI (in), 154 nCE (in), 155 DCLK (in), 156 DATA0 (io), 157 DATA1 (io), 158 DATA2 (io), 159 DATA3 (io), 161 DATA4 (io), 162 DATA5 (io), 164 DATA6 (io), 166 DATA7 (io), 180 DEV_CLRn (io), 182 INPUT (in), 183 CLK (in), 184 INPUT (in), 186 DEV_OE (io), 204 nRS (io), 206 nWS (io), 207 CS (io), 208 nCS (io)
part C pins: 5 VCCIO (power), 6 GNDINT (power), 7 NC, 8 NC, 9 NC, 13 NC, 14 NC, 15 NC, 17 NC, 20 GNDINT (power), 21 VCCINT (power), 22 VCCIO (power), 23 GNDINT (power), 27 NC, 29 NC, 31 NC, 32 GNDINT (power), 33 VCCINT (power), 34 VCCIO (power), 35 GNDINT (power), 36 NC, 37 NC, 40 NC, 42 VCCIO (power), 43 GNDINT (power), 45 NC, 48 VCCINT (power), 49 GNDINT (power), 59 GNDINT (power), 66 VCCIO (power), 72 VCCINT (power), 76 GNDINT (power), 77 VCC_CKLK (power), 81 GND_CKLK (power), 82 GNDINT (power), 84 VCCIO (power), 91 VCCINT (power), 98 VCCIO (power), 106 VCCINT (power), 109 GNDINT (power), 110 VCCIO (power), 111 NC, 113 NC, 114 NC, 115 NC, 117 GNDINT (power), 118 VCCIO (power), 121 NC, 123 GNDINT (power), 124 VCCINT (power), 125 NC, 126 NC, 129 GNDINT (power), 130 VCCINT (power), 132 NC, 134 NC, 137 GNDINT (power), 138 VCCIO (power), 139 NC, 140 NC, 145 GNDINT (power), 146 VCCIO (power), 147 NC, 149 NC, 151 GNDINT (power), 152 VCCINT (power), 165 VCCIO (power), 171 GNDINT (power), 178 VCCIO (power), 181 GNDINT (power), 185 VCCINT (power), 188 GNDINT (power), 194 VCCIO (power), 201 VCCINT (power)

## EP1K10QC208-3
designator U?
ACEX 1K PLD with 120 I/O Pins, 208-pin PQFP, Commercial Grade, Speed Grade 3; Published: 17-Jul-2002; LatestRevisionDate: 13-Apr-2006; LatestRevisionNote: IPC-7351 Footprint Added.; DatasheetVersion: May-2003; PackageVersion: ver14.1, Oct-2005; PackageReference: PQFP208; Publisher: Altium Limited; PackageDescription: 208-Pin Plastic Quad Flat Pack (PQFP208); Code_JEDEC: MS-029-FA-1; ComponentLink1Description: Manufacturer Link; ComponentLink1URL: http://www.altera.com/products/devices/acex/acx-index.html; ComponentLink2Description: Datasheet; ComponentLink2URL: http://www.altera.com/literature/ds/acex.pdf
footprint PQFP208_N (Shrink QFP, 208-Leads, Body 28x28mm, Pitch 0.5mm, IPC Medium Density)
footprint PQFP208_L (Shrink QFP, 208-Leads, Body 28x28mm, Pitch 0.5mm, IPC High Density)
footprint PQFP208_M (Shrink QFP, 208-Leads, Body 28x28mm, Pitch 0.5mm, IPC Low Density)
3D model EP1K10-PQFP208 (208-Pin Plastic Quad Flat Pack (PQFP208))
part A pins: 11 I/O (io), 12 I/O (io), 18 I/O (io), 24 I/O (io), 25 I/O (io), 26 I/O (io), 28 I/O (io), 30 I/O (io), 38 I/O (io), 39 I/O (io), 41 I/O (io), 44 I/O (io), 46 I/O (io), 47 I/O (io), 53 I/O (io), 54 I/O (io), 55 I/O (io), 56 I/O (io), 57 I/O (io), 58 I/O (io), 60 I/O (io), 61 I/O (io), 63 I/O (io), 64 I/O (io), 65 I/O (io), 67 I/O (io), 68 I/O (io), 69 I/O (io), 70 I/O (io), 71 I/O (io), 73 I/O (io), 74 I/O (io), 75 I/O (io), 83 I/O (io), 85 I/O (io), 86 I/O (io), 87 I/O (io), 88 I/O (io), 89 I/O (io), 90 I/O (io), 92 I/O (io), 93 I/O (io), 94 I/O (io), 95 I/O (io), 96 I/O (io), 97 I/O (io), 99 I/O (io), 100 I/O (io), 101 I/O (io), 102 I/O (io), 103 I/O (io), 104 I/O (io), 112 I/O (io), 116 I/O (io), 119 I/O (io), 120 I/O (io), 122 I/O (io), 127 I/O (io), 128 I/O (io), 131 I/O (io), 133 I/O (io), 135 I/O (io), 136 I/O (io), 141 I/O (io), 142 I/O (io), 143 I/O (io), 144 I/O (io), 148 I/O (io), 150 I/O (io), 160 I/O (io), 163 I/O (io), 167 I/O (io), 168 I/O (io), 169 I/O (io), 170 I/O (io), 172 I/O (io), 173 I/O (io), 174 I/O (io), 175 I/O (io), 176 I/O (io), 177 I/O (io), 179 I/O (io), 187 I/O (io), 189 I/O (io), 190 I/O (io), 191 I/O (io), 192 I/O (io), 193 I/O (io), 195 I/O (io), 196 I/O (io), 197 I/O (io), 198 I/O (io), 199 I/O (io), 200 I/O (io), 202 I/O (io), 203 I/O (io), 205 I/O (io)
part B pins: 1 TCK (in), 2 CONF_DONE (in), 3 nCEO (in), 4 TDO (out), 10 CLKUSR (io), 16 RDYnBUSY (io), 19 INIT_DONE (io), 50 TMS (in), 51 TRST (in), 52 nSTATUS (in), 62 LOCK (io), 78 INPUT (in), 79 CLK/GCLK1 (in), 80 INPUT (in), 105 nCONFIG (in), 107 MSEL1 (in), 108 MSEL0 (in), 153 TDI (in), 154 nCE (in), 155 DCLK (in), 156 DATA0 (io), 157 DATA1 (io), 158 DATA2 (io), 159 DATA3 (io), 161 DATA4 (io), 162 DATA5 (io), 164 DATA6 (io), 166 DATA7 (io), 180 DEV_CLRn (io), 182 INPUT (in), 183 CLK (in), 184 INPUT (in), 186 DEV_OE (io), 204 nRS (io), 206 nWS (io), 207 CS (io), 208 nCS (io)
part C pins: 5 VCCIO (power), 6 GNDINT (power), 7 NC, 8 NC, 9 NC, 13 NC, 14 NC, 15 NC, 17 NC, 20 GNDINT (power), 21 VCCINT (power), 22 VCCIO (power), 23 GNDINT (power), 27 NC, 29 NC, 31 NC, 32 GNDINT (power), 33 VCCINT (power), 34 VCCIO (power), 35 GNDINT (power), 36 NC, 37 NC, 40 NC, 42 VCCIO (power), 43 GNDINT (power), 45 NC, 48 VCCINT (power), 49 GNDINT (power), 59 GNDINT (power), 66 VCCIO (power), 72 VCCINT (power), 76 GNDINT (power), 77 VCC_CKLK (power), 81 GND_CKLK (power), 82 GNDINT (power), 84 VCCIO (power), 91 VCCINT (power), 98 VCCIO (power), 106 VCCINT (power), 109 GNDINT (power), 110 VCCIO (power), 111 NC, 113 NC, 114 NC, 115 NC, 117 GNDINT (power), 118 VCCIO (power), 121 NC, 123 GNDINT (power), 124 VCCINT (power), 125 NC, 126 NC, 129 GNDINT (power), 130 VCCINT (power), 132 NC, 134 NC, 137 GNDINT (power), 138 VCCIO (power), 139 NC, 140 NC, 145 GNDINT (power), 146 VCCIO (power), 147 NC, 149 NC, 151 GNDINT (power), 152 VCCINT (power), 165 VCCIO (power), 171 GNDINT (power), 178 VCCIO (power), 181 GNDINT (power), 185 VCCINT (power), 188 GNDINT (power), 194 VCCIO (power), 201 VCCINT (power)

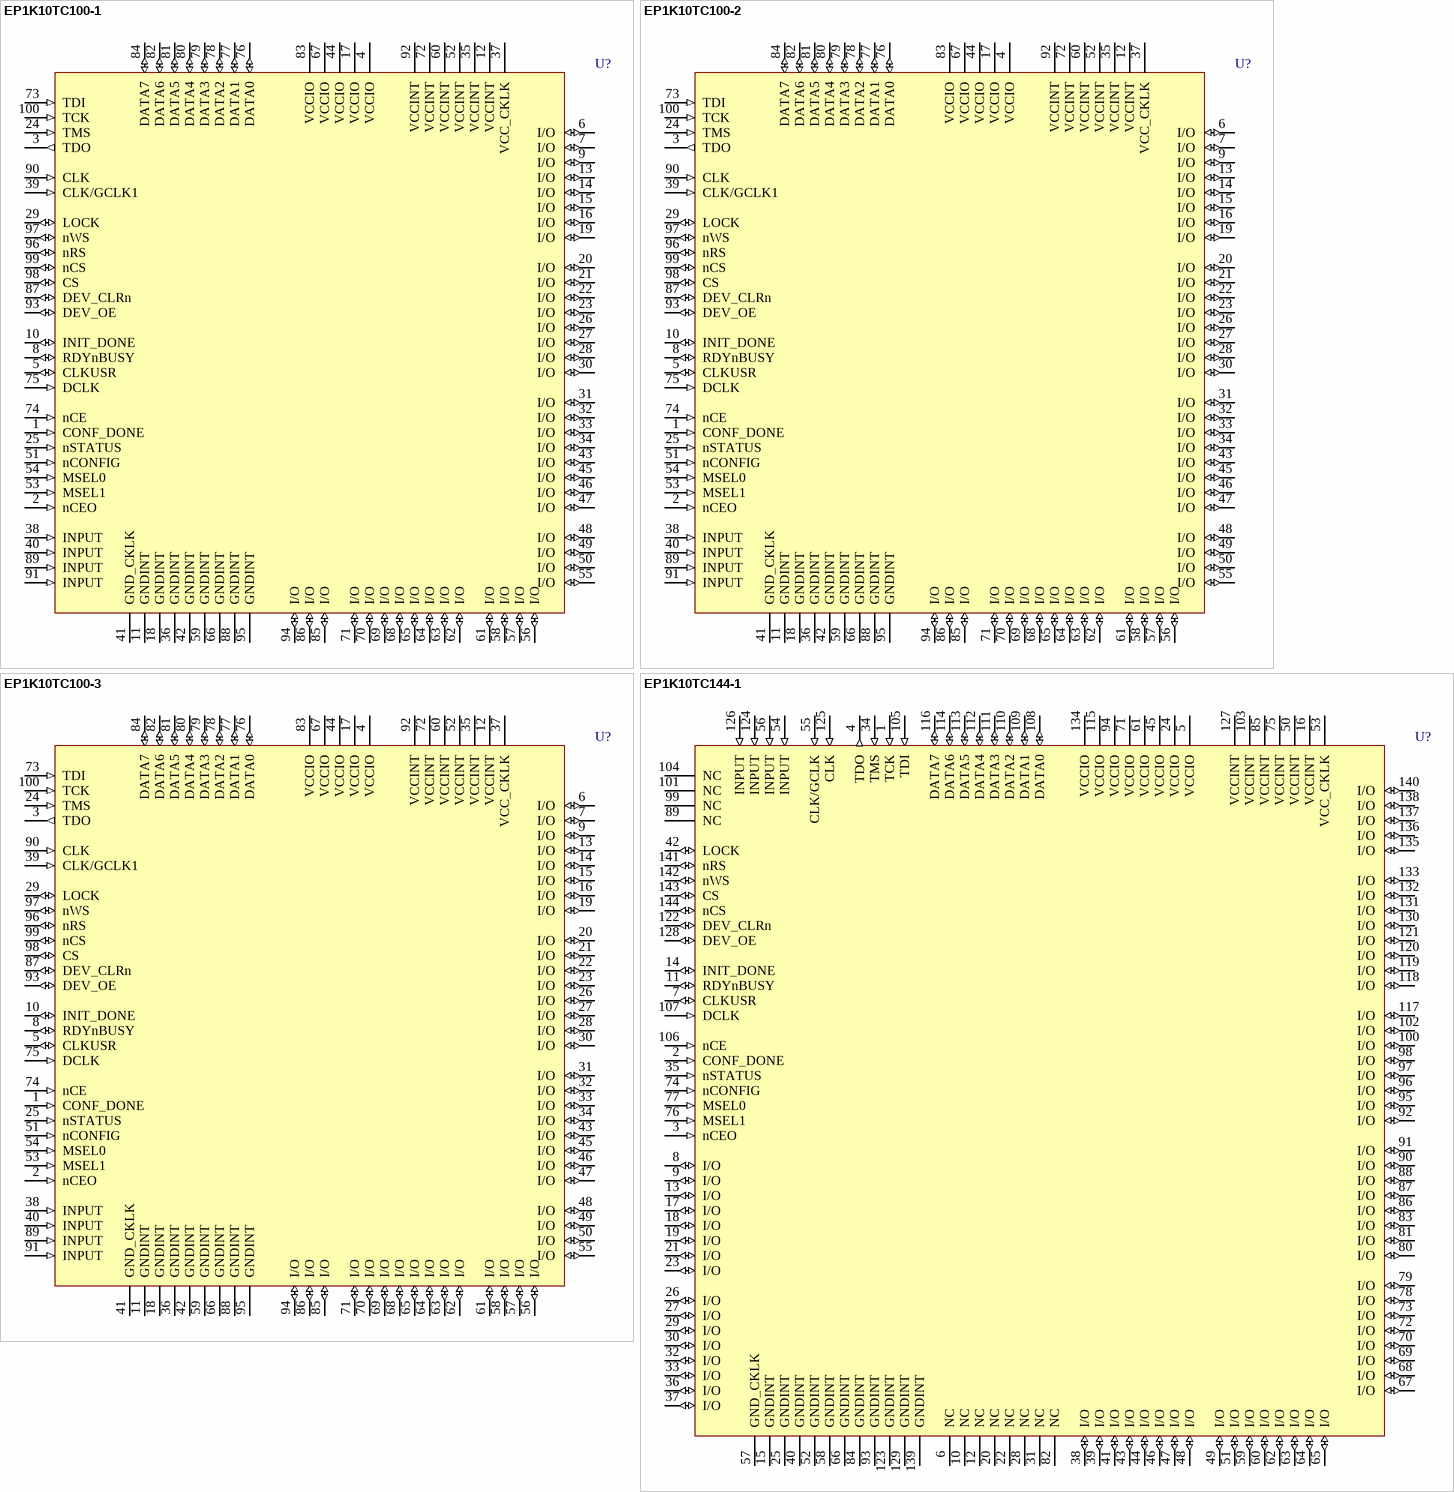
[diagram p4: symbols EP1K10TC100-1 to EP1K10TC144-1]

## EP1K10TC100-1
designator U?
ACEX 1K PLD with 66 I/O Pins, 100-pin TQFP, Commercial Grade, Speed Grade 1; Published: 17-Jul-2002; LatestRevisionDate: 13-Apr-2006; LatestRevisionNote: IPC-7351 Footprint Added.; DatasheetVersion: May-2003; PackageVersion: ver14.1, Oct-2005; PackageReference: TQFP100; Publisher: Altium Limited; PackageDescription: 100-Pin Plastic Thin Quad Flat Pack (TQFP100); Code_JEDEC: MS-026-AED; ComponentLink1Description: Manufacturer Link; ComponentLink1URL: http://www.altera.com/products/devices/acex/acx-index.html; ComponentLink2Description: Datasheet; ComponentLink2URL: http://www.altera.com/literature/ds/acex.pdf
footprint TQFP100_N (Thin QFP, 100-Leads, Body 14x14mm, Pitch 0.5mm, IPC Medium Density)
footprint TQFP100_L (Thin QFP, 100-Leads, Body 14x14mm, Pitch 0.5mm, IPC High Density)
footprint TQFP100_M (Thin QFP, 100-Leads, Body 14x14mm, Pitch 0.5mm, IPC Low Density)
3D model EP1K10-TQFP100 (100-Pin Plastic Thin Quad Flat Pack (TQFP100))
pins: 1 CONF_DONE (in), 2 nCEO (in), 3 TDO (out), 4 VCCIO (power), 5 CLKUSR (io), 6 I/O (io), 7 I/O (io), 8 RDYnBUSY (io), 9 I/O (io), 10 INIT_DONE (io), 11 GNDINT (power), 12 VCCINT (power), 13 I/O (io), 14 I/O (io), 15 I/O (io), 16 I/O (io), 17 VCCIO (power), 18 GNDINT (power), 19 I/O (io), 20 I/O (io), 21 I/O (io), 22 I/O (io), 23 I/O (io), 24 TMS (in), 25 nSTATUS (in), 26 I/O (io), 27 I/O (io), 28 I/O (io), 29 LOCK (io), 30 I/O (io), 31 I/O (io), 32 I/O (io), 33 I/O (io), 34 I/O (io), 35 VCCINT (power), 36 GNDINT (power), 37 VCC_CKLK (power), 38 INPUT (in), 39 CLK/GCLK1 (in), 40 INPUT (in), 41 GND_CKLK (power), 42 GNDINT (power), 43 I/O (io), 44 VCCIO (power), 45 I/O (io), 46 I/O (io), 47 I/O (io), 48 I/O (io), 49 I/O (io), 50 I/O (io), 51 nCONFIG (in), 52 VCCINT (power), 53 MSEL1 (in), 54 MSEL0 (in), 55 I/O (io), 56 I/O (io), 57 I/O (io), 58 I/O (io), 59 GNDINT (power), 60 VCCINT (power), 61 I/O (io), 62 I/O (io), 63 I/O (io), 64 I/O (io), 65 I/O (io), 66 GNDINT (power), 67 VCCIO (power), 68 I/O (io), 69 I/O (io), 70 I/O (io), 71 I/O (io), 72 VCCINT (power), 73 TDI (in), 74 nCE (in), 75 DCLK (in), 76 DATA0 (io), 77 DATA1 (io), 78 DATA2 (io), 79 DATA3 (io), 80 DATA4 (io), 81 DATA5 (io), 82 DATA6 (io), 83 VCCIO (power), 84 DATA7 (io), 85 I/O (io), 86 I/O (io), 87 DEV_CLRn (io), 88 GNDINT (power), 89 INPUT (in), 90 CLK (in), 91 INPUT (in), 92 VCCINT (power), 93 DEV_OE (io), 94 I/O (io), 95 GNDINT (power), 96 nRS (io), 97 nWS (io), 98 CS (io), 99 nCS (io), 100 TCK (in)

## EP1K10TC100-2
designator U?
ACEX 1K PLD with 66 I/O Pins, 100-pin TQFP, Commercial Grade, Speed Grade 2; Published: 17-Jul-2002; LatestRevisionDate: 13-Apr-2006; LatestRevisionNote: IPC-7351 Footprint Added.; DatasheetVersion: May-2003; PackageVersion: ver14.1, Oct-2005; PackageReference: TQFP100; Publisher: Altium Limited; PackageDescription: 100-Pin Plastic Thin Quad Flat Pack (TQFP100); Code_JEDEC: MS-026-AED; ComponentLink1Description: Manufacturer Link; ComponentLink1URL: http://www.altera.com/products/devices/acex/acx-index.html; ComponentLink2Description: Datasheet; ComponentLink2URL: http://www.altera.com/literature/ds/acex.pdf
footprint TQFP100_N (Thin QFP, 100-Leads, Body 14x14mm, Pitch 0.5mm, IPC Medium Density)
footprint TQFP100_L (Thin QFP, 100-Leads, Body 14x14mm, Pitch 0.5mm, IPC High Density)
footprint TQFP100_M (Thin QFP, 100-Leads, Body 14x14mm, Pitch 0.5mm, IPC Low Density)
3D model EP1K10-TQFP100 (100-Pin Plastic Thin Quad Flat Pack (TQFP100))
pins: 1 CONF_DONE (in), 2 nCEO (in), 3 TDO (out), 4 VCCIO (power), 5 CLKUSR (io), 6 I/O (io), 7 I/O (io), 8 RDYnBUSY (io), 9 I/O (io), 10 INIT_DONE (io), 11 GNDINT (power), 12 VCCINT (power), 13 I/O (io), 14 I/O (io), 15 I/O (io), 16 I/O (io), 17 VCCIO (power), 18 GNDINT (power), 19 I/O (io), 20 I/O (io), 21 I/O (io), 22 I/O (io), 23 I/O (io), 24 TMS (in), 25 nSTATUS (in), 26 I/O (io), 27 I/O (io), 28 I/O (io), 29 LOCK (io), 30 I/O (io), 31 I/O (io), 32 I/O (io), 33 I/O (io), 34 I/O (io), 35 VCCINT (power), 36 GNDINT (power), 37 VCC_CKLK (power), 38 INPUT (in), 39 CLK/GCLK1 (in), 40 INPUT (in), 41 GND_CKLK (power), 42 GNDINT (power), 43 I/O (io), 44 VCCIO (power), 45 I/O (io), 46 I/O (io), 47 I/O (io), 48 I/O (io), 49 I/O (io), 50 I/O (io), 51 nCONFIG (in), 52 VCCINT (power), 53 MSEL1 (in), 54 MSEL0 (in), 55 I/O (io), 56 I/O (io), 57 I/O (io), 58 I/O (io), 59 GNDINT (power), 60 VCCINT (power), 61 I/O (io), 62 I/O (io), 63 I/O (io), 64 I/O (io), 65 I/O (io), 66 GNDINT (power), 67 VCCIO (power), 68 I/O (io), 69 I/O (io), 70 I/O (io), 71 I/O (io), 72 VCCINT (power), 73 TDI (in), 74 nCE (in), 75 DCLK (in), 76 DATA0 (io), 77 DATA1 (io), 78 DATA2 (io), 79 DATA3 (io), 80 DATA4 (io), 81 DATA5 (io), 82 DATA6 (io), 83 VCCIO (power), 84 DATA7 (io), 85 I/O (io), 86 I/O (io), 87 DEV_CLRn (io), 88 GNDINT (power), 89 INPUT (in), 90 CLK (in), 91 INPUT (in), 92 VCCINT (power), 93 DEV_OE (io), 94 I/O (io), 95 GNDINT (power), 96 nRS (io), 97 nWS (io), 98 CS (io), 99 nCS (io), 100 TCK (in)

## EP1K10TC100-3
designator U?
ACEX 1K PLD with 66 I/O Pins, 100-pin TQFP, Commercial Grade, Speed Grade 3; Published: 17-Jul-2002; LatestRevisionDate: 13-Apr-2006; LatestRevisionNote: IPC-7351 Footprint Added.; DatasheetVersion: May-2003; PackageVersion: ver14.1, Oct-2005; PackageReference: TQFP100; Publisher: Altium Limited; PackageDescription: 100-Pin Plastic Thin Quad Flat Pack (TQFP100); Code_JEDEC: MS-026-AED; ComponentLink1Description: Manufacturer Link; ComponentLink1URL: http://www.altera.com/products/devices/acex/acx-index.html; ComponentLink2Description: Datasheet; ComponentLink2URL: http://www.altera.com/literature/ds/acex.pdf
footprint TQFP100_N (Thin QFP, 100-Leads, Body 14x14mm, Pitch 0.5mm, IPC Medium Density)
footprint TQFP100_L (Thin QFP, 100-Leads, Body 14x14mm, Pitch 0.5mm, IPC High Density)
footprint TQFP100_M (Thin QFP, 100-Leads, Body 14x14mm, Pitch 0.5mm, IPC Low Density)
3D model EP1K10-TQFP100 (100-Pin Plastic Thin Quad Flat Pack (TQFP100))
pins: 1 CONF_DONE (in), 2 nCEO (in), 3 TDO (out), 4 VCCIO (power), 5 CLKUSR (io), 6 I/O (io), 7 I/O (io), 8 RDYnBUSY (io), 9 I/O (io), 10 INIT_DONE (io), 11 GNDINT (power), 12 VCCINT (power), 13 I/O (io), 14 I/O (io), 15 I/O (io), 16 I/O (io), 17 VCCIO (power), 18 GNDINT (power), 19 I/O (io), 20 I/O (io), 21 I/O (io), 22 I/O (io), 23 I/O (io), 24 TMS (in), 25 nSTATUS (in), 26 I/O (io), 27 I/O (io), 28 I/O (io), 29 LOCK (io), 30 I/O (io), 31 I/O (io), 32 I/O (io), 33 I/O (io), 34 I/O (io), 35 VCCINT (power), 36 GNDINT (power), 37 VCC_CKLK (power), 38 INPUT (in), 39 CLK/GCLK1 (in), 40 INPUT (in), 41 GND_CKLK (power), 42 GNDINT (power), 43 I/O (io), 44 VCCIO (power), 45 I/O (io), 46 I/O (io), 47 I/O (io), 48 I/O (io), 49 I/O (io), 50 I/O (io), 51 nCONFIG (in), 52 VCCINT (power), 53 MSEL1 (in), 54 MSEL0 (in), 55 I/O (io), 56 I/O (io), 57 I/O (io), 58 I/O (io), 59 GNDINT (power), 60 VCCINT (power), 61 I/O (io), 62 I/O (io), 63 I/O (io), 64 I/O (io), 65 I/O (io), 66 GNDINT (power), 67 VCCIO (power), 68 I/O (io), 69 I/O (io), 70 I/O (io), 71 I/O (io), 72 VCCINT (power), 73 TDI (in), 74 nCE (in), 75 DCLK (in), 76 DATA0 (io), 77 DATA1 (io), 78 DATA2 (io), 79 DATA3 (io), 80 DATA4 (io), 81 DATA5 (io), 82 DATA6 (io), 83 VCCIO (power), 84 DATA7 (io), 85 I/O (io), 86 I/O (io), 87 DEV_CLRn (io), 88 GNDINT (power), 89 INPUT (in), 90 CLK (in), 91 INPUT (in), 92 VCCINT (power), 93 DEV_OE (io), 94 I/O (io), 95 GNDINT (power), 96 nRS (io), 97 nWS (io), 98 CS (io), 99 nCS (io), 100 TCK (in)

## EP1K10TC144-1
designator U?
ACEX 1K PLD with 92 I/O Pins, 144-pin TQFP, Commercial Grade, Speed Grade 1; Published: 17-Jul-2002; LatestRevisionDate: 13-Apr-2006; LatestRevisionNote: IPC-7351 Footprint Added.; DatasheetVersion: May-2003; PackageVersion: ver14.1, Oct-2005; PackageReference: TQFP144; Publisher: Altium Limited; PackageDescription: 144-Pin Plastic Thin Quad Flat Pack (TQFP144); Code_JEDEC: MS-026-BFB; ComponentLink1Description: Manufacturer Link; ComponentLink1URL: http://www.altera.com/products/devices/acex/acx-index.html; ComponentLink2Description: Datasheet; ComponentLink2URL: http://www.altera.com/literature/ds/acex.pdf
footprint TQFP144_N (Thin QFP, 144-Leads, Body 20x20mm, Pitch 0.5mm, IPC Medium Density)
footprint TQFP144_L (Thin QFP, 144-Leads, Body 20x20mm, Pitch 0.5mm, IPC High Density)
footprint TQFP144_M (Thin QFP, 144-Leads, Body 20x20mm, Pitch 0.5mm, IPC Low Density)
3D model EP1K10-TQFP144 (144-Pin Plastic Thin Quad Flat Pack (TQFP144))
pins: 1 TCK (in), 2 CONF_DONE (in), 3 nCEO (in), 4 TDO (out), 5 VCCIO (power), 6 NC, 7 CLKUSR (io), 8 I/O (io), 9 I/O (io), 10 NC, 11 RDYnBUSY (io), 12 NC, 13 I/O (io), 14 INIT_DONE (io), 15 GNDINT (power), 16 VCCINT (power), 17 I/O (io), 18 I/O (io), 19 I/O (io), 20 NC, 21 I/O (io), 22 NC, 23 I/O (io), 24 VCCIO (power), 25 GNDINT (power), 26 I/O (io), 27 I/O (io), 28 NC, 29 I/O (io), 30 I/O (io), 31 NC, 32 I/O (io), 33 I/O (io), 34 TMS (in), 35 nSTATUS (in), 36 I/O (io), 37 I/O (io), 38 I/O (io), 39 I/O (io), 40 GNDINT (power), 41 I/O (io), 42 LOCK (io), 43 I/O (io), 44 I/O (io), 45 VCCIO (power), 46 I/O (io), 47 I/O (io), 48 I/O (io), 49 I/O (io), 50 VCCINT (power), 51 I/O (io), 52 GNDINT (power), 53 VCC_CKLK (power), 54 INPUT (in), 55 CLK/GCLK (in), 56 INPUT (in), 57 GND_CKLK (power), 58 GNDINT (power), 59 I/O (io), 60 I/O (io), 61 VCCIO (power), 62 I/O (io), 63 I/O (io), 64 I/O (io), 65 I/O (io), 66 GNDINT (power), 67 I/O (io), 68 I/O (io), 69 I/O (io), 70 I/O (io), 71 VCCIO (power), 72 I/O (io), 73 I/O (io), 74 nCONFIG (in), 75 VCCINT (power), 76 MSEL1 (in), 77 MSEL0 (in), 78 I/O (io), 79 I/O (io), 80 I/O (io), 81 I/O (io), 82 NC, 83 I/O (io), 84 GNDINT (power), 85 VCCINT (power), 86 I/O (io), 87 I/O (io), 88 I/O (io), 89 NC, 90 I/O (io), 91 I/O (io), 92 I/O (io), 93 GNDINT (power), 94 VCCIO (power), 95 I/O (io), 96 I/O (io), 97 I/O (io), 98 I/O (io), 99 NC, 100 I/O (io), 101 NC, 102 I/O (io), 103 VCCINT (power), 104 NC, 105 TDI (in), 106 nCE (in), 107 DCLK (in), 108 DATA0 (io), 109 DATA1 (io), 110 DATA2 (io), 111 DATA3 (io), 112 DATA4 (io), 113 DATA5 (io), 114 DATA6 (io), 115 VCCIO (power), 116 DATA7 (io), 117 I/O (io), 118 I/O (io), 119 I/O (io), 120 I/O (io), 121 I/O (io), 122 DEV_CLRn (io), 123 GNDINT (power), 124 INPUT (in), 125 CLK (in), 126 INPUT (in), 127 VCCINT (power), 128 DEV_OE (io), 129 GNDINT (power), 130 I/O (io), 131 I/O (io), 132 I/O (io), 133 I/O (io), 134 VCCIO (power), 135 I/O (io), 136 I/O (io), 137 I/O (io), 138 I/O (io), 139 GNDINT (power), 140 I/O (io), 141 nRS (io), 142 nWS (io), 143 CS (io), 144 nCS (io)

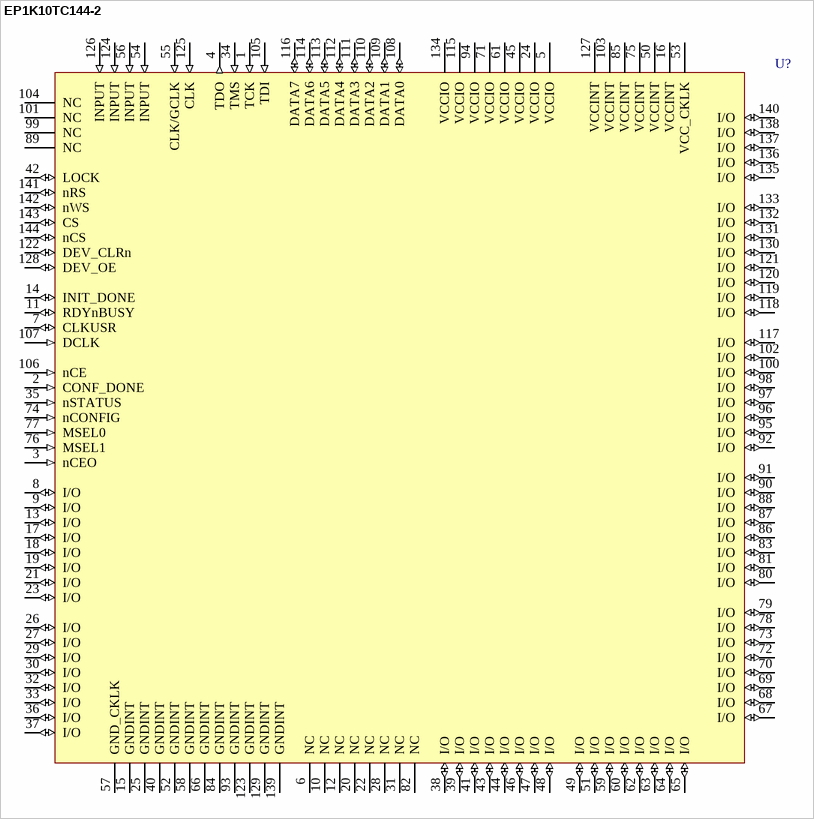
[diagram p5: symbol EP1K10TC144-2]

## EP1K10TC144-2
designator U?
ACEX 1K PLD with 92 I/O Pins, 144-pin TQFP, Commercial Grade, Speed Grade 2; Published: 17-Jul-2002; LatestRevisionDate: 13-Apr-2006; LatestRevisionNote: IPC-7351 Footprint Added.; DatasheetVersion: May-2003; PackageVersion: ver14.1, Oct-2005; PackageReference: TQFP144; Publisher: Altium Limited; PackageDescription: 144-Pin Plastic Thin Quad Flat Pack (TQFP144); Code_JEDEC: MS-026-BFB; ComponentLink1Description: Manufacturer Link; ComponentLink1URL: http://www.altera.com/products/devices/acex/acx-index.html; ComponentLink2Description: Datasheet; ComponentLink2URL: http://www.altera.com/literature/ds/acex.pdf
footprint TQFP144_N (Thin QFP, 144-Leads, Body 20x20mm, Pitch 0.5mm, IPC Medium Density)
footprint TQFP144_L (Thin QFP, 144-Leads, Body 20x20mm, Pitch 0.5mm, IPC High Density)
footprint TQFP144_M (Thin QFP, 144-Leads, Body 20x20mm, Pitch 0.5mm, IPC Low Density)
3D model EP1K10-TQFP144 (144-Pin Plastic Thin Quad Flat Pack (TQFP144))
pins: 1 TCK (in), 2 CONF_DONE (in), 3 nCEO (in), 4 TDO (out), 5 VCCIO (power), 6 NC, 7 CLKUSR (io), 8 I/O (io), 9 I/O (io), 10 NC, 11 RDYnBUSY (io), 12 NC, 13 I/O (io), 14 INIT_DONE (io), 15 GNDINT (power), 16 VCCINT (power), 17 I/O (io), 18 I/O (io), 19 I/O (io), 20 NC, 21 I/O (io), 22 NC, 23 I/O (io), 24 VCCIO (power), 25 GNDINT (power), 26 I/O (io), 27 I/O (io), 28 NC, 29 I/O (io), 30 I/O (io), 31 NC, 32 I/O (io), 33 I/O (io), 34 TMS (in), 35 nSTATUS (in), 36 I/O (io), 37 I/O (io), 38 I/O (io), 39 I/O (io), 40 GNDINT (power), 41 I/O (io), 42 LOCK (io), 43 I/O (io), 44 I/O (io), 45 VCCIO (power), 46 I/O (io), 47 I/O (io), 48 I/O (io), 49 I/O (io), 50 VCCINT (power), 51 I/O (io), 52 GNDINT (power), 53 VCC_CKLK (power), 54 INPUT (in), 55 CLK/GCLK (in), 56 INPUT (in), 57 GND_CKLK (power), 58 GNDINT (power), 59 I/O (io), 60 I/O (io), 61 VCCIO (power), 62 I/O (io), 63 I/O (io), 64 I/O (io), 65 I/O (io), 66 GNDINT (power), 67 I/O (io), 68 I/O (io), 69 I/O (io), 70 I/O (io), 71 VCCIO (power), 72 I/O (io), 73 I/O (io), 74 nCONFIG (in), 75 VCCINT (power), 76 MSEL1 (in), 77 MSEL0 (in), 78 I/O (io), 79 I/O (io), 80 I/O (io), 81 I/O (io), 82 NC, 83 I/O (io), 84 GNDINT (power), 85 VCCINT (power), 86 I/O (io), 87 I/O (io), 88 I/O (io), 89 NC, 90 I/O (io), 91 I/O (io), 92 I/O (io), 93 GNDINT (power), 94 VCCIO (power), 95 I/O (io), 96 I/O (io), 97 I/O (io), 98 I/O (io), 99 NC, 100 I/O (io), 101 NC, 102 I/O (io), 103 VCCINT (power), 104 NC, 105 TDI (in), 106 nCE (in), 107 DCLK (in), 108 DATA0 (io), 109 DATA1 (io), 110 DATA2 (io), 111 DATA3 (io), 112 DATA4 (io), 113 DATA5 (io), 114 DATA6 (io), 115 VCCIO (power), 116 DATA7 (io), 117 I/O (io), 118 I/O (io), 119 I/O (io), 120 I/O (io), 121 I/O (io), 122 DEV_CLRn (io), 123 GNDINT (power), 124 INPUT (in), 125 CLK (in), 126 INPUT (in), 127 VCCINT (power), 128 DEV_OE (io), 129 GNDINT (power), 130 I/O (io), 131 I/O (io), 132 I/O (io), 133 I/O (io), 134 VCCIO (power), 135 I/O (io), 136 I/O (io), 137 I/O (io), 138 I/O (io), 139 GNDINT (power), 140 I/O (io), 141 nRS (io), 142 nWS (io), 143 CS (io), 144 nCS (io)

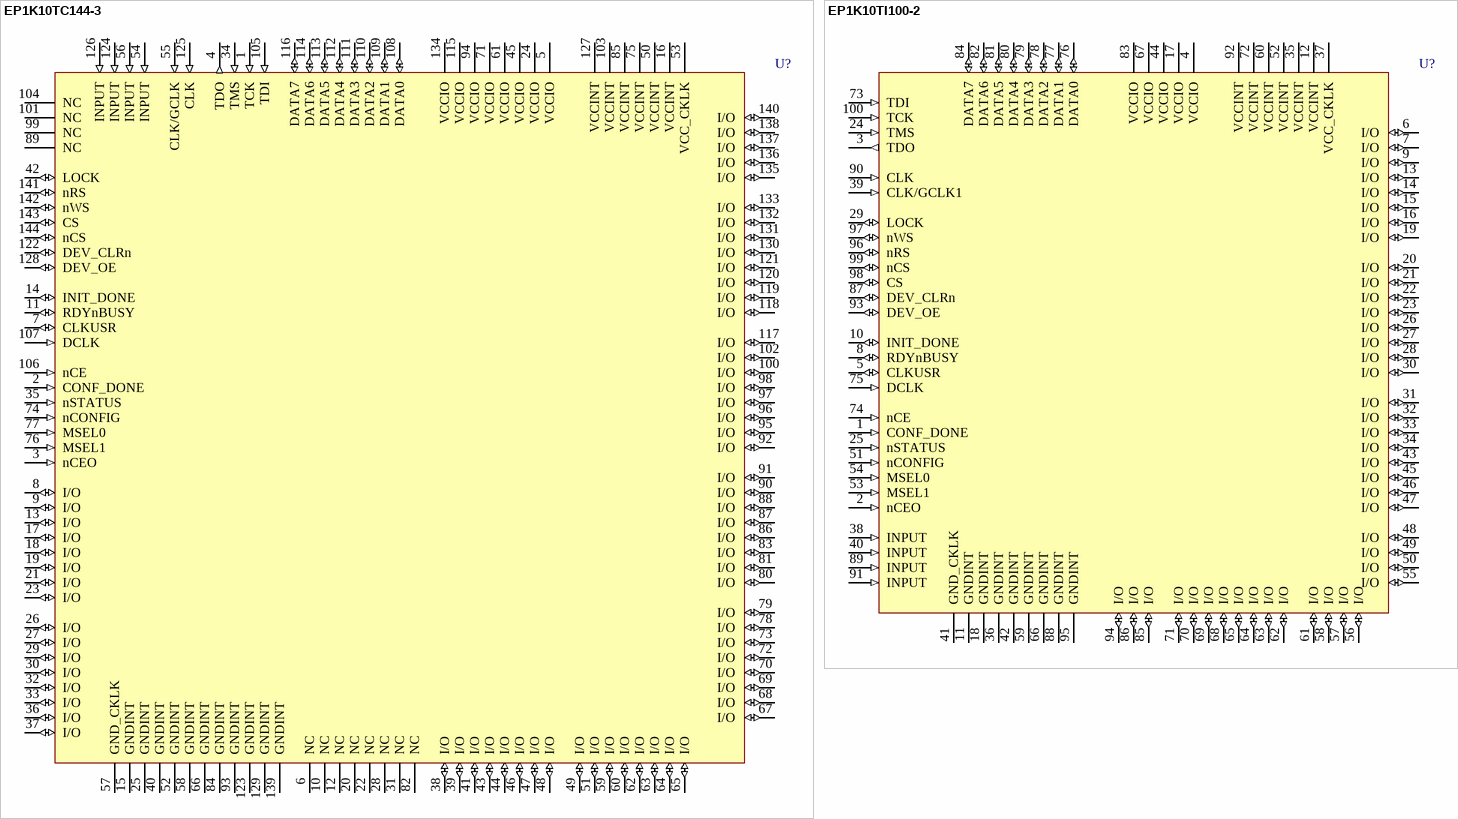
[diagram p6: symbols EP1K10TC144-3 to EP1K10TI100-2]

## EP1K10TC144-3
designator U?
ACEX 1K PLD with 92 I/O Pins, 144-pin TQFP, Commercial Grade, Speed Grade 3; Published: 17-Jul-2002; LatestRevisionDate: 13-Apr-2006; LatestRevisionNote: IPC-7351 Footprint Added.; DatasheetVersion: May-2003; PackageVersion: ver14.1, Oct-2005; PackageReference: TQFP144; Publisher: Altium Limited; PackageDescription: 144-Pin Plastic Thin Quad Flat Pack (TQFP144); Code_JEDEC: MS-026-BFB; ComponentLink1Description: Manufacturer Link; ComponentLink1URL: http://www.altera.com/products/devices/acex/acx-index.html; ComponentLink2Description: Datasheet; ComponentLink2URL: http://www.altera.com/literature/ds/acex.pdf
footprint TQFP144_N (Thin QFP, 144-Leads, Body 20x20mm, Pitch 0.5mm, IPC Medium Density)
footprint TQFP144_L (Thin QFP, 144-Leads, Body 20x20mm, Pitch 0.5mm, IPC High Density)
footprint TQFP144_M (Thin QFP, 144-Leads, Body 20x20mm, Pitch 0.5mm, IPC Low Density)
3D model EP1K10-TQFP144 (144-Pin Plastic Thin Quad Flat Pack (TQFP144))
pins: 1 TCK (in), 2 CONF_DONE (in), 3 nCEO (in), 4 TDO (out), 5 VCCIO (power), 6 NC, 7 CLKUSR (io), 8 I/O (io), 9 I/O (io), 10 NC, 11 RDYnBUSY (io), 12 NC, 13 I/O (io), 14 INIT_DONE (io), 15 GNDINT (power), 16 VCCINT (power), 17 I/O (io), 18 I/O (io), 19 I/O (io), 20 NC, 21 I/O (io), 22 NC, 23 I/O (io), 24 VCCIO (power), 25 GNDINT (power), 26 I/O (io), 27 I/O (io), 28 NC, 29 I/O (io), 30 I/O (io), 31 NC, 32 I/O (io), 33 I/O (io), 34 TMS (in), 35 nSTATUS (in), 36 I/O (io), 37 I/O (io), 38 I/O (io), 39 I/O (io), 40 GNDINT (power), 41 I/O (io), 42 LOCK (io), 43 I/O (io), 44 I/O (io), 45 VCCIO (power), 46 I/O (io), 47 I/O (io), 48 I/O (io), 49 I/O (io), 50 VCCINT (power), 51 I/O (io), 52 GNDINT (power), 53 VCC_CKLK (power), 54 INPUT (in), 55 CLK/GCLK (in), 56 INPUT (in), 57 GND_CKLK (power), 58 GNDINT (power), 59 I/O (io), 60 I/O (io), 61 VCCIO (power), 62 I/O (io), 63 I/O (io), 64 I/O (io), 65 I/O (io), 66 GNDINT (power), 67 I/O (io), 68 I/O (io), 69 I/O (io), 70 I/O (io), 71 VCCIO (power), 72 I/O (io), 73 I/O (io), 74 nCONFIG (in), 75 VCCINT (power), 76 MSEL1 (in), 77 MSEL0 (in), 78 I/O (io), 79 I/O (io), 80 I/O (io), 81 I/O (io), 82 NC, 83 I/O (io), 84 GNDINT (power), 85 VCCINT (power), 86 I/O (io), 87 I/O (io), 88 I/O (io), 89 NC, 90 I/O (io), 91 I/O (io), 92 I/O (io), 93 GNDINT (power), 94 VCCIO (power), 95 I/O (io), 96 I/O (io), 97 I/O (io), 98 I/O (io), 99 NC, 100 I/O (io), 101 NC, 102 I/O (io), 103 VCCINT (power), 104 NC, 105 TDI (in), 106 nCE (in), 107 DCLK (in), 108 DATA0 (io), 109 DATA1 (io), 110 DATA2 (io), 111 DATA3 (io), 112 DATA4 (io), 113 DATA5 (io), 114 DATA6 (io), 115 VCCIO (power), 116 DATA7 (io), 117 I/O (io), 118 I/O (io), 119 I/O (io), 120 I/O (io), 121 I/O (io), 122 DEV_CLRn (io), 123 GNDINT (power), 124 INPUT (in), 125 CLK (in), 126 INPUT (in), 127 VCCINT (power), 128 DEV_OE (io), 129 GNDINT (power), 130 I/O (io), 131 I/O (io), 132 I/O (io), 133 I/O (io), 134 VCCIO (power), 135 I/O (io), 136 I/O (io), 137 I/O (io), 138 I/O (io), 139 GNDINT (power), 140 I/O (io), 141 nRS (io), 142 nWS (io), 143 CS (io), 144 nCS (io)

## EP1K10TI100-2
designator U?
ACEX 1K PLD with 66 I/O Pins, 100-pin TQFP, Industrial Grade, Speed Grade 2; Published: 17-Jul-2002; LatestRevisionDate: 13-Apr-2006; LatestRevisionNote: IPC-7351 Footprint Added.; DatasheetVersion: May-2003; PackageVersion: ver14.1, Oct-2005; PackageReference: TQFP100; Publisher: Altium Limited; PackageDescription: 100-Pin Plastic Thin Quad Flat Pack (TQFP100); Code_JEDEC: MS-026-AED; ComponentLink1Description: Manufacturer Link; ComponentLink1URL: http://www.altera.com/products/devices/acex/acx-index.html; ComponentLink2Description: Datasheet; ComponentLink2URL: http://www.altera.com/literature/ds/acex.pdf
footprint TQFP100_N (Thin QFP, 100-Leads, Body 14x14mm, Pitch 0.5mm, IPC Medium Density)
footprint TQFP100_L (Thin QFP, 100-Leads, Body 14x14mm, Pitch 0.5mm, IPC High Density)
footprint TQFP100_M (Thin QFP, 100-Leads, Body 14x14mm, Pitch 0.5mm, IPC Low Density)
3D model EP1K10-TQFP100 (100-Pin Plastic Thin Quad Flat Pack (TQFP100))
pins: 1 CONF_DONE (in), 2 nCEO (in), 3 TDO (out), 4 VCCIO (power), 5 CLKUSR (io), 6 I/O (io), 7 I/O (io), 8 RDYnBUSY (io), 9 I/O (io), 10 INIT_DONE (io), 11 GNDINT (power), 12 VCCINT (power), 13 I/O (io), 14 I/O (io), 15 I/O (io), 16 I/O (io), 17 VCCIO (power), 18 GNDINT (power), 19 I/O (io), 20 I/O (io), 21 I/O (io), 22 I/O (io), 23 I/O (io), 24 TMS (in), 25 nSTATUS (in), 26 I/O (io), 27 I/O (io), 28 I/O (io), 29 LOCK (io), 30 I/O (io), 31 I/O (io), 32 I/O (io), 33 I/O (io), 34 I/O (io), 35 VCCINT (power), 36 GNDINT (power), 37 VCC_CKLK (power), 38 INPUT (in), 39 CLK/GCLK1 (in), 40 INPUT (in), 41 GND_CKLK (power), 42 GNDINT (power), 43 I/O (io), 44 VCCIO (power), 45 I/O (io), 46 I/O (io), 47 I/O (io), 48 I/O (io), 49 I/O (io), 50 I/O (io), 51 nCONFIG (in), 52 VCCINT (power), 53 MSEL1 (in), 54 MSEL0 (in), 55 I/O (io), 56 I/O (io), 57 I/O (io), 58 I/O (io), 59 GNDINT (power), 60 VCCINT (power), 61 I/O (io), 62 I/O (io), 63 I/O (io), 64 I/O (io), 65 I/O (io), 66 GNDINT (power), 67 VCCIO (power), 68 I/O (io), 69 I/O (io), 70 I/O (io), 71 I/O (io), 72 VCCINT (power), 73 TDI (in), 74 nCE (in), 75 DCLK (in), 76 DATA0 (io), 77 DATA1 (io), 78 DATA2 (io), 79 DATA3 (io), 80 DATA4 (io), 81 DATA5 (io), 82 DATA6 (io), 83 VCCIO (power), 84 DATA7 (io), 85 I/O (io), 86 I/O (io), 87 DEV_CLRn (io), 88 GNDINT (power), 89 INPUT (in), 90 CLK (in), 91 INPUT (in), 92 VCCINT (power), 93 DEV_OE (io), 94 I/O (io), 95 GNDINT (power), 96 nRS (io), 97 nWS (io), 98 CS (io), 99 nCS (io), 100 TCK (in)

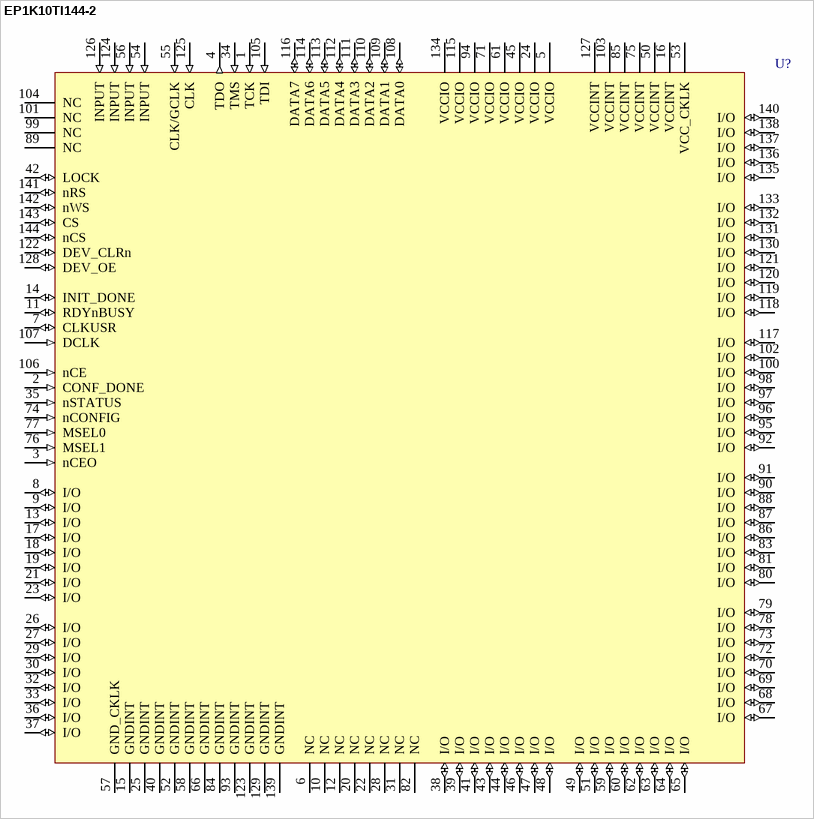
[diagram p7: symbol EP1K10TI144-2]